# Altium schematic symbol library MCU.SchLib: 25 symbols (part 2 of 3)
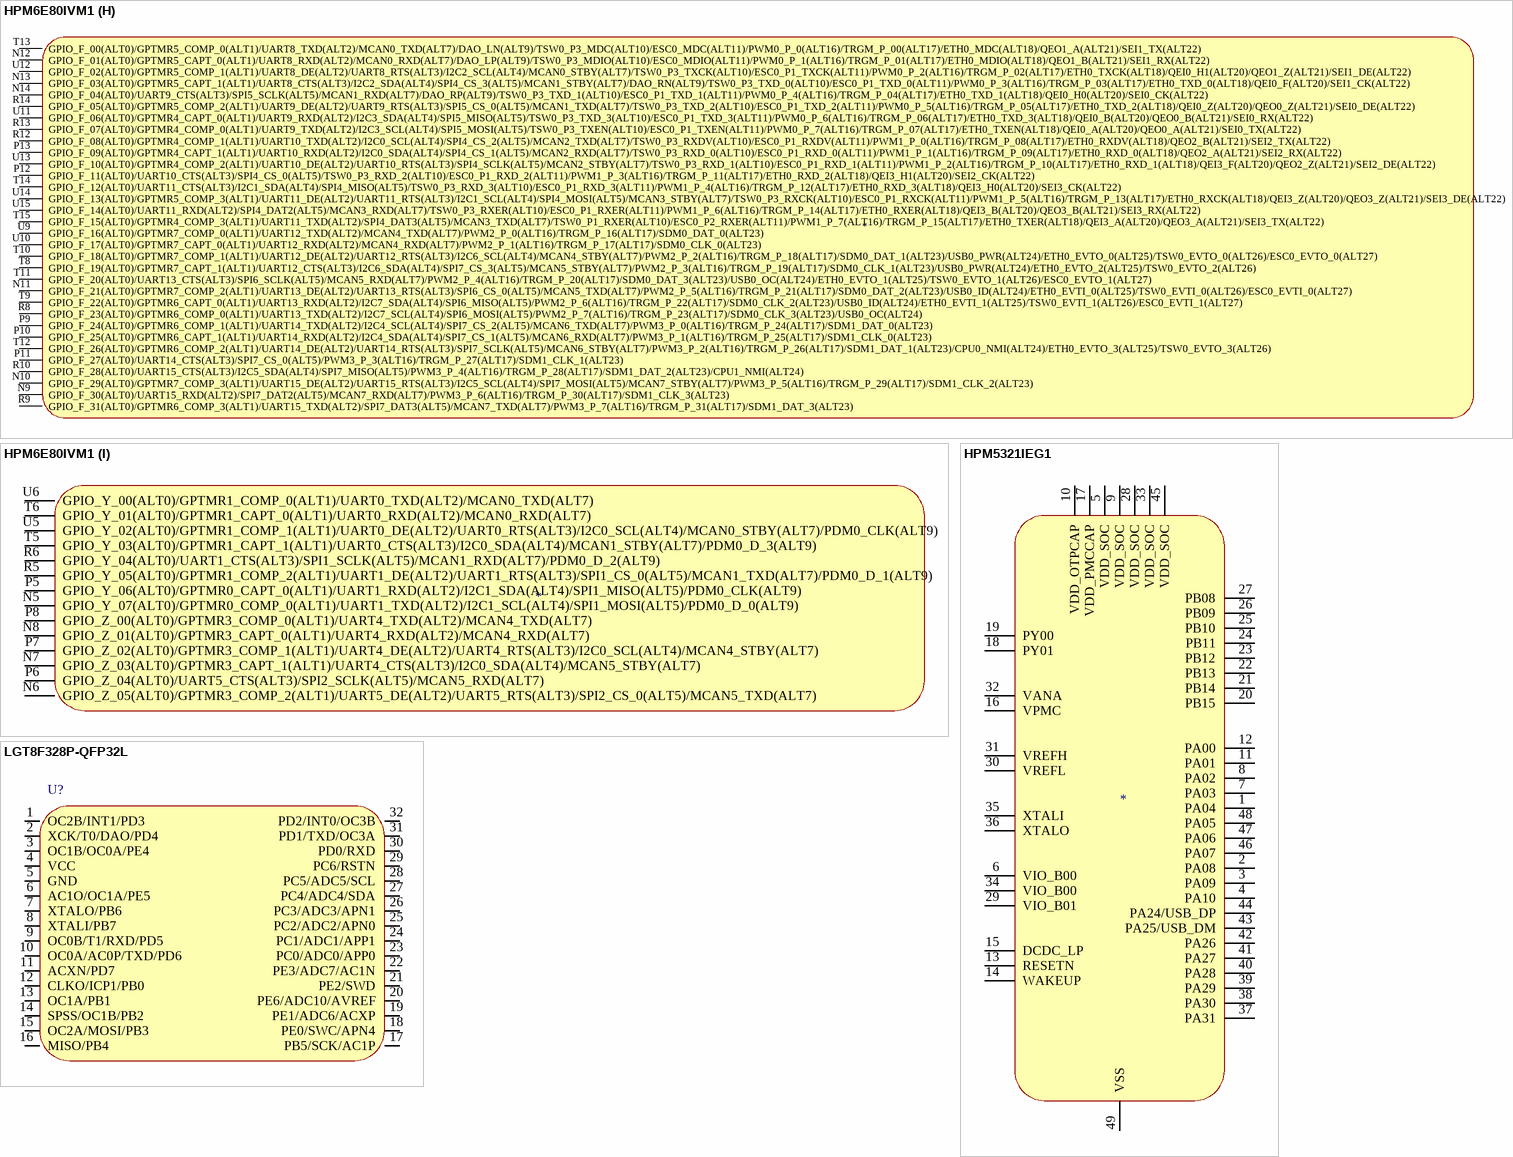
[diagram p8: symbols HPM6E80IVM1 to LGT8F328P-QFP32L]

## HPM6E80IVM1
designator U??
Symbol: HPM6E80IVM1_C49374603
footprint BGA-289_L14.0-W14.0-R17-C17-P0.80-TL
part A pins: A1 VSS, A17 VSS, C7 VSS, C11 VSS, D4 VSS, D14 VSS, F6 VDD_SOC, F12 VDD_SOC, G3 VSS, G7 VDD_SOC, G8 VSS, G9 VSS, G10 VSS, G11 VDD_SOC, G15 VSS, H7 VSS, H8 VDD_SOC, H9 VSS, H10 VDD_SOC, H11 VSS, J7 VSS, J8 VSS, J9 VDD_SOC, J10 VSS, J11 VSS, K7 VSS, K8 VDD_SOC, K9 VSS, K10 VDD_SOC, K11 VSS, L3 VSS, L6 VDD_PHY1CAP, L7 VDD_SOC, L8 VSS, L10 VSSA, L11 VDD_SOC, L15 VSS, M7 VDD_PHY0CAP, M8 VDD_OTPCAP, M9 VDD_PMCCAP, M12 VDD_USB, P4 VSS, P14 VSS, R2 DCDC_GND, R7 VSS, R11 VSS, T2 DCDC_GND, U1 VSS, U2 DCDC_GND, U17 VSS
part B pins: F7 VIO_B05, F8 VIO_B06, F9 VIO_B07, F10 VIO_B08, F11 VIO_B09, G6 VIO_B04, G12 VPLLVUSB, H6 VIO_B03, H12 USB0_VBUS, J6 VIO_B02, J12 VIO_B10, K6 VIO_B01, K12 VIO_B11, L9 VREFL, L12 VIO_B12, L16 XTALO, L17 XTALI, M6 DCDC_SNS, M10 VREFH, M11 VANA, M16 USB0_DP, M17 USB0_DN, R1 DCDC_IN, R3 DCDC_LP, R4 WKUP, T1 DCDC_IN, T3 DCDC_LP, T4 RSTN, T7 RTC_XO, U3 DCDC_LP, U4 VPMC, U7 RTC_XI, U8 VBAT
part C pins: G5 GPIO_A_07(ALT0)/GPTMR0_COMP_0(ALT1)/UART1_TXD(ALT2)/I2C3_SCL(ALT4)/SPI1_MOSI(ALT5)/PDM0_D_3(ALT9)/PWM0_P_7(ALT16)/TRGM_P_07(ALT17)/JTAG_TMS(ALT24), H1 GPIO_A_14(ALT0)/UART3_RXD(ALT2)/SPI0_DAT2(ALT5)/MCAN3_RXD(ALT7)/PDM0_D_2(ALT9)/ESC0_CTR_2(ALT11)/PWM1_P_6(ALT16)/TRGM_P_14(ALT17)/QEI3_B(ALT20)/QEO3_B(ALT21)/SEI3_RX(ALT22)/SDM1_CLK_3(ALT23)/ETH0_EVTO_3(ALT25)/TSW0_EVTO_3(ALT26), H2 GPIO_A_15(ALT0)/GPTMR0_COMP_3(ALT1)/UART3_TXD(ALT2)/SPI0_DAT3(ALT5)/MCAN3_TXD(ALT7)/PDM0_D_1(ALT9)/ESC0_CTR_3(ALT11)/PWM1_P_7(ALT16)/TRGM_P_15(ALT17)/QEI3_A(ALT20)/QEO3_A(ALT21)/SEI3_TX(ALT22)/SDM1_DAT_3(ALT23), H3 GPIO_A_04(ALT0)/UART1_CTS(ALT3)/SPI1_SCLK(ALT5)/MCAN1_RXD(ALT7)/PWM0_P_4(ALT16)/TRGM_P_04(ALT17)/JTAG_TDO(ALT24), H4 GPIO_A_05(ALT0)/GPTMR1_COMP_2(ALT1)/UART1_DE(ALT2)/UART1_RTS(ALT3)/SPI1_CS_0(ALT5)/MCAN1_TXD(ALT7)/PWM0_P_5(ALT16)/TRGM_P_05(ALT17)/JTAG_TDI(ALT24), H5 GPIO_A_06(ALT0)/GPTMR0_CAPT_0(ALT1)/UART1_RXD(ALT2)/I2C3_SDA(ALT4)/SPI1_MISO(ALT5)/PWM0_P_6(ALT16)/TRGM_P_06(ALT17)/JTAG_TCK(ALT24), J1 GPIO_A_11(ALT0)/UART2_CTS(ALT3)/SPI0_CS_0(ALT5)/PDM0_CLK(ALT9)/ESC0_CTR_0(ALT11)/PWM1_P_3(ALT16)/TRGM_P_11(ALT17)/QEI3_H1(ALT20)/RDC1_PWM_N(ALT21)/SEI2_CK(ALT22)/SDM1_CLK_1(ALT23)/CPU0_NMI(ALT24)/ETH0_EVTO_0(ALT25)/TSW0_EVTO_0(ALT26)/ESC0_EVTO_0(ALT27), J2 GPIO_A_12(ALT0)/UART3_CTS(ALT3)/I2C1_SDA(ALT4)/SPI0_MISO(ALT5)/PDM0_D_0(ALT9)/ESC0_SDA(ALT11)/PWM1_P_4(ALT16)/TRGM_P_12(ALT17)/QEI3_H0(ALT20)/RDC1_PWM_P(ALT21)/SEI3_CK(ALT22)/SDM1_DAT_2(ALT23)/CPU1_NMI(ALT24)/ETH0_EVTI_1(ALT25)/TSW0_EVTI_1(ALT26)/ESC0_EVTI_1(ALT27), J3 GPIO_A_13(ALT0)/GPTMR1_COMP_3(ALT1)/UART3_DE(ALT2)/UART3_RTS(ALT3)/I2C1_SCL(ALT4)/SPI0_MOSI(ALT5)/MCAN3_STBY(ALT7)/PDM0_CLK(ALT9)/ESC0_SCL(ALT11)/PWM1_P_5(ALT16)/TRGM_P_13(ALT17)/QEI3_Z(ALT20)/QEO3_Z(ALT21)/SEI3_DE(ALT22)/SDM1_CLK_2(ALT23)/CPU0_NMI(ALT24)/ETH0_EVTO_1(ALT25)/TSW0_EVTO_1(ALT26)/ESC0_EVTO_1(ALT27), J4 GPIO_A_02(ALT0)/GPTMR1_COMP_1(ALT1)/UART0_DE(ALT2)/UART0_RTS(ALT3)/I2C2_SCL(ALT4)/MCAN0_STBY(ALT7)/PWM0_P_2(ALT16)/TRGM_P_02(ALT17)/SYSCTL_CLK_OBS_1(ALT24), J5 GPIO_A_03(ALT0)/GPTMR1_CAPT_1(ALT1)/UART0_CTS(ALT3)/I2C2_SDA(ALT4)/SPI0_CS_3(ALT5)/MCAN1_STBY(ALT7)/PWM0_P_3(ALT16)/TRGM_P_03(ALT17)/SYSCTL_CLK_OBS_3(ALT24), K1 GPIO_A_08(ALT0)/GPTMR0_COMP_1(ALT1)/UART2_TXD(ALT2)/I2C0_SCL(ALT4)/SPI0_CS_2(ALT5)/MCAN2_TXD(ALT7)/PWM1_P_0(ALT16)/TRGM_P_08(ALT17)/RDC0_PWM_N(ALT20)/QEO2_B(ALT21)/SEI2_TX(ALT22)/SDM1_DAT_0(ALT23)/JTAG_TRST(ALT24), K2 GPIO_A_09(ALT0)/GPTMR0_CAPT_1(ALT1)/UART2_RXD(ALT2)/I2C0_SDA(ALT4)/SPI0_CS_1(ALT5)/MCAN2_RXD(ALT7)/ESC0_REFCK(ALT11)/PWM1_P_1(ALT16)/TRGM_P_09(ALT17)/RDC0_PWM_P(ALT20)/QEO2_A(ALT21)/SEI2_RX(ALT22)/SDM1_CLK_0(ALT23)/ETH0_EVTO_2(ALT25)/TSW0_EVTO_2(ALT26), K3 GPIO_A_10(ALT0)/GPTMR0_COMP_2(ALT1)/UART2_DE(ALT2)/UART2_RTS(ALT3)/SPI0_SCLK(ALT5)/MCAN2_STBY(ALT7)/ESC0_CTR_1(ALT11)/PWM1_P_2(ALT16)/TRGM_P_10(ALT17)/QEI3_F(ALT20)/QEO2_Z(ALT21)/SEI2_DE(ALT22)/SDM1_DAT_1(ALT23)/CPU1_NMI(ALT24)/ETH0_EVTI_0(ALT25)/TSW0_EVTI_0(ALT26)/ESC0_EVTI_0(ALT27), K4 GPIO_A_00(ALT0)/GPTMR1_COMP_0(ALT1)/UART0_TXD(ALT2)/MCAN0_TXD(ALT7)/PWM0_P_0(ALT16)/TRGM_P_00(ALT17)/SYSCTL_CLK_OBS_0(ALT24), K5 GPIO_A_01(ALT0)/GPTMR1_CAPT_0(ALT1)/UART0_RXD(ALT2)/MCAN0_RXD(ALT7)/PWM0_P_1(ALT16)/TRGM_P_01(ALT17)/SYSCTL_CLK_OBS_2(ALT24), L1 GPIO_A_22(ALT0)/GPTMR2_CAPT_0(ALT1)/UART5_RXD(ALT2)/I2C7_SDA(ALT4)/SPI2_MISO(ALT5)/TSW0_P2_RXER(ALT10)/ESC0_P1_RXER(ALT11)/PWM2_P_6(ALT16)/TRGM_P_22(ALT17)/ETH0_TXER(ALT18)/QEI2_B(ALT20)/QEO0_B(ALT21)/SEI0_RX(ALT22)/SDM0_DAT_0(ALT23), L2 GPIO_A_23(ALT0)/GPTMR2_COMP_0(ALT1)/UART5_TXD(ALT2)/I2C7_SCL(ALT4)/SPI2_MOSI(ALT5)/TSW0_P1_RXER(ALT10)/ESC0_P0_RXER(ALT11)/PWM2_P_7(ALT16)/TRGM_P_23(ALT17)/ETH0_RXER(ALT18)/QEI2_A(ALT20)/QEO0_A(ALT21)/SEI0_TX(ALT22)/SDM0_CLK_0(ALT23), L4 GPIO_A_30(ALT0)/UART7_RXD(ALT2)/SPI3_DAT2(ALT5)/MCAN7_RXD(ALT7)/TSW0_P1_MDC(ALT10)/ESC0_MDIO(ALT11)/PWM3_P_6(ALT16)/TRGM_P_30(ALT17)/ETH0_MDIO(ALT18)/QEI1_A(ALT20)/QEO3_B(ALT21)/SEI3_RX(ALT22), L5 GPIO_A_31(ALT0)/GPTMR2_COMP_3(ALT1)/UART7_TXD(ALT2)/SPI3_DAT3(ALT5)/MCAN7_TXD(ALT7)/TSW0_P1_MDIO(ALT10)/ESC0_MDC(ALT11)/PWM3_P_7(ALT16)/TRGM_P_31(ALT17)/ETH0_MDC(ALT18)/QEI1_B(ALT20)/QEO3_A(ALT21)/SEI3_TX(ALT22), M1 GPIO_A_20(ALT0)/UART5_CTS(ALT3)/SPI2_SCLK(ALT5)/MCAN5_RXD(ALT7)/TSW0_P1_RXD_3(ALT10)/ESC0_P0_RXD_3(ALT11)/PWM2_P_4(ALT16)/TRGM_P_20(ALT17)/QEI2_H0(ALT20)/SEI0_CK(ALT22)/SDM0_DAT_1(ALT23), M2 GPIO_A_21(ALT0)/GPTMR3_COMP_2(ALT1)/UART5_DE(ALT2)/UART5_RTS(ALT3)/SPI2_CS_0(ALT5)/MCAN5_TXD(ALT7)/TSW0_P1_RXCK(ALT10)/ESC0_P0_RXCK(ALT11)/PWM2_P_5(ALT16)/TRGM_P_21(ALT17)/QEI2_Z(ALT20)/QEO0_Z(ALT21)/SEI0_DE(ALT22)/SDM0_CLK_1(ALT23), M3 GPIO_A_27(ALT0)/UART6_CTS(ALT3)/SPI3_CS_0(ALT5)/TSW0_P1_TXD_2(ALT10)/ESC0_P0_TXD_2(ALT11)/PWM3_P_3(ALT16)/TRGM_P_27(ALT17)/QEI1_F(ALT20)/SEI2_CK(ALT22), M4 GPIO_A_28(ALT0)/UART7_CTS(ALT3)/I2C5_SDA(ALT4)/SPI3_MISO(ALT5)/TSW0_P1_TXD_3(ALT10)/ESC0_P0_TXD_3(ALT11)/PWM3_P_4(ALT16)/TRGM_P_28(ALT17)/ESC0_CTR_1(ALT18)/QEI1_H0(ALT20)/SEI3_CK(ALT22), M5 GPIO_A_29(ALT0)/GPTMR3_COMP_3(ALT1)/UART7_DE(ALT2)/UART7_RTS(ALT3)/I2C5_SCL(ALT4)/SPI3_MOSI(ALT5)/MCAN7_STBY(ALT7)/TSW0_P1_TXEN(ALT10)/ESC0_P0_TXEN(ALT11)/PWM3_P_5(ALT16)/TRGM_P_29(ALT17)/QEI1_Z(ALT20)/QEO3_Z(ALT21)/SEI3_DE(ALT22), N1 GPIO_A_18(ALT0)/GPTMR3_COMP_1(ALT1)/UART4_DE(ALT2)/UART4_RTS(ALT3)/I2C6_SCL(ALT4)/MCAN4_STBY(ALT7)/TSW0_P1_RXD_1(ALT10)/ESC0_P0_RXD_1(ALT11)/PWM2_P_2(ALT16)/TRGM_P_18(ALT17)/QEI2_H1(ALT20)/QEO1_Z(ALT21)/SEI1_DE(ALT22)/SDM0_DAT_2(ALT23), N2 GPIO_A_19(ALT0)/GPTMR3_CAPT_1(ALT1)/UART4_CTS(ALT3)/I2C6_SDA(ALT4)/SPI3_CS_3(ALT5)/MCAN5_STBY(ALT7)/TSW0_P1_RXD_2(ALT10)/ESC0_P0_RXD_2(ALT11)/PWM2_P_3(ALT16)/TRGM_P_19(ALT17)/QEI2_F(ALT20)/SEI1_CK(ALT22)/SDM0_CLK_2(ALT23), N3 GPIO_A_25(ALT0)/GPTMR2_CAPT_1(ALT1)/UART6_RXD(ALT2)/I2C4_SDA(ALT4)/SPI3_CS_1(ALT5)/MCAN6_RXD(ALT7)/TSW0_P1_TXD_0(ALT10)/ESC0_P0_TXD_0(ALT11)/PWM3_P_1(ALT16)/TRGM_P_25(ALT17)/ESC0_CTR_0(ALT18)/QEO2_B(ALT21)/SEI2_RX(ALT22), N4 GPIO_A_26(ALT0)/GPTMR2_COMP_2(ALT1)/UART6_DE(ALT2)/UART6_RTS(ALT3)/SPI3_SCLK(ALT5)/MCAN6_STBY(ALT7)/TSW0_P1_TXD_1(ALT10)/ESC0_P0_TXD_1(ALT11)/PWM3_P_2(ALT16)/TRGM_P_26(ALT17)/QEI1_H1(ALT20)/QEO2_Z(ALT21)/SEI2_DE(ALT22), P1 GPIO_A_16(ALT0)/GPTMR3_COMP_0(ALT1)/UART4_TXD(ALT2)/MCAN4_TXD(ALT7)/TSW0_P1_RXDV(ALT10)/ESC0_P0_RXDV(ALT11)/PWM2_P_0(ALT16)/TRGM_P_16(ALT17)/QEO1_A(ALT21)/SEI1_TX(ALT22)/SDM0_DAT_3(ALT23), P2 GPIO_A_17(ALT0)/GPTMR3_CAPT_0(ALT1)/UART4_RXD(ALT2)/MCAN4_RXD(ALT7)/TSW0_P1_RXD_0(ALT10)/ESC0_P0_RXD_0(ALT11)/PWM2_P_1(ALT16)/TRGM_P_17(ALT17)/QEO1_B(ALT21)/SEI1_RX(ALT22)/SDM0_CLK_3(ALT23), P3 GPIO_A_24(ALT0)/GPTMR2_COMP_1(ALT1)/UART6_TXD(ALT2)/I2C4_SCL(ALT4)/SPI3_CS_2(ALT5)/MCAN6_TXD(ALT7)/TSW0_P1_TXCK(ALT10)/ESC0_P0_TXCK(ALT11)/PWM3_P_0(ALT16)/TRGM_P_24(ALT17)/QEO2_A(ALT21)/SEI2_TX(ALT22)
part D pins: A2 GPIO_B_24(ALT0)/GPTMR6_COMP_1(ALT1)/UART14_TXD(ALT2)/I2C4_SCL(ALT4)/SPI7_CS_2(ALT5)/MCAN6_TXD(ALT7)/ESC0_CTR_4(ALT11)/XPI0_CA_CS1(ALT14)/PWM3_P_0(ALT16)/TRGM_P_24(ALT17)/RDC0_PWM_N(ALT21)/SDM0_CLK_3(ALT23)/ETH0_EVTI_0(ALT25)/TSW0_EVTI_0(ALT26)/ESC0_EVTI_0(ALT27), A3 GPIO_B_26(ALT0)/GPTMR6_COMP_2(ALT1)/UART14_DE(ALT2)/UART14_RTS(ALT3)/SPI7_SCLK(ALT5)/MCAN6_STBY(ALT7)/ESC0_CTR_6(ALT11)/XPI0_CA_D_2(ALT14)/PWM3_P_2(ALT16)/TRGM_P_26(ALT17)/QEI1_H1(ALT20)/RDC1_PWM_N(ALT21)/SDM0_CLK_2(ALT23)/ETH0_EVTI_1(ALT25)/TSW0_EVTI_1(ALT26)/ESC0_EVTI_1(ALT27), A4 GPIO_B_28(ALT0)/UART15_CTS(ALT3)/I2C5_SDA(ALT4)/SPI7_MISO(ALT5)/ESC0_CTR_8(ALT11)/XPI0_CA_D_1(ALT14)/PWM3_P_4(ALT16)/TRGM_P_28(ALT17)/QEI1_H0(ALT20)/RDC0_PWM_N(ALT21)/SDM0_CLK_1(ALT23), A5 GPIO_B_30(ALT0)/UART15_RXD(ALT2)/SPI7_DAT2(ALT5)/MCAN7_RXD(ALT7)/ESC0_CTR_7(ALT11)/XPI0_CA_CS0(ALT14)/PWM3_P_6(ALT16)/TRGM_P_30(ALT17)/QEI1_A(ALT20)/RDC1_PWM_N(ALT21)/SDM0_CLK_0(ALT23), B1 GPIO_B_10(ALT0)/GPTMR4_COMP_2(ALT1)/UART10_DE(ALT2)/UART10_RTS(ALT3)/SPI4_SCLK(ALT5)/MCAN2_STBY(ALT7)/I2S0_FCLK(ALT8)/TSW0_P1_TXD_3(ALT10)/ESC0_P0_TXD_3(ALT11)/PWM1_P_2(ALT16)/TRGM_P_10(ALT17)/ETH0_TXD_3(ALT18)/QEI3_F(ALT20)/QEO2_Z(ALT21)/SEI2_DE(ALT22), B2 GPIO_B_25(ALT0)/GPTMR6_CAPT_1(ALT1)/UART14_RXD(ALT2)/I2C4_SDA(ALT4)/SPI7_CS_1(ALT5)/MCAN6_RXD(ALT7)/ESC0_CTR_5(ALT11)/XPI0_CA_DQS(ALT14)/PWM3_P_1(ALT16)/TRGM_P_25(ALT17)/RDC0_PWM_P(ALT21)/SDM0_DAT_3(ALT23)/ETH0_EVTO_0(ALT25)/TSW0_EVTO_0(ALT26)/ESC0_EVTO_0(ALT27), B3 GPIO_B_27(ALT0)/UART14_CTS(ALT3)/SPI7_CS_0(ALT5)/ESC0_CTR_7(ALT11)/XPI0_CA_D_0(ALT14)/PWM3_P_3(ALT16)/TRGM_P_27(ALT17)/QEI1_F(ALT20)/RDC1_PWM_P(ALT21)/SDM0_DAT_2(ALT23)/ETH0_EVTO_2(ALT25)/TSW0_EVTO_2(ALT26), B4 GPIO_B_29(ALT0)/GPTMR7_COMP_3(ALT1)/UART15_DE(ALT2)/UART15_RTS(ALT3)/I2C5_SCL(ALT4)/SPI7_MOSI(ALT5)/MCAN7_STBY(ALT7)/XPI0_CA_SCLK(ALT14)/PWM3_P_5(ALT16)/TRGM_P_29(ALT17)/QEI1_Z(ALT20)/RDC0_PWM_P(ALT21)/SDM0_DAT_1(ALT23)/ETH0_EVTO_1(ALT25)/TSW0_EVTO_1(ALT26)/ESC0_EVTO_1(ALT27), B5 GPIO_B_31(ALT0)/GPTMR6_COMP_3(ALT1)/UART15_TXD(ALT2)/SPI7_DAT3(ALT5)/MCAN7_TXD(ALT7)/ESC0_CTR_8(ALT11)/XPI0_CA_D_3(ALT14)/PWM3_P_7(ALT16)/TRGM_P_31(ALT17)/QEI1_B(ALT20)/RDC1_PWM_P(ALT21)/SDM0_DAT_0(ALT23)/ETH0_EVTO_3(ALT25)/TSW0_EVTO_3(ALT26), C1 GPIO_B_08(ALT0)/GPTMR4_COMP_1(ALT1)/UART10_TXD(ALT2)/I2C0_SCL(ALT4)/SPI4_CS_2(ALT5)/MCAN2_TXD(ALT7)/I2S0_RXD_0(ALT8)/TSW0_P1_TXD_1(ALT10)/ESC0_P0_TXD_1(ALT11)/PWM1_P_0(ALT16)/TRGM_P_08(ALT17)/ETH0_TXD_1(ALT18)/QEO2_B(ALT21)/SEI2_TX(ALT22)/SDM1_DAT_0(ALT23), C2 GPIO_B_09(ALT0)/GPTMR4_CAPT_1(ALT1)/UART10_RXD(ALT2)/I2C0_SDA(ALT4)/SPI4_CS_1(ALT5)/MCAN2_RXD(ALT7)/I2S0_RXD_2(ALT8)/TSW0_P1_TXD_2(ALT10)/ESC0_P0_TXD_2(ALT11)/PWM1_P_1(ALT16)/TRGM_P_09(ALT17)/ETH0_TXD_2(ALT18)/QEO2_A(ALT21)/SEI2_RX(ALT22)/SDM1_CLK_0(ALT23), C3 GPIO_B_11(ALT0)/UART10_CTS(ALT3)/SPI4_CS_0(ALT5)/I2S0_MCLK(ALT8)/TSW0_P1_TXEN(ALT10)/ESC0_P0_TXEN(ALT11)/PWM1_P_3(ALT16)/TRGM_P_11(ALT17)/ETH0_TXEN(ALT18)/QEI3_H1(ALT20)/SEI2_CK(ALT22), C4 GPIO_B_22(ALT0)/GPTMR6_CAPT_0(ALT1)/UART13_RXD(ALT2)/I2C7_SDA(ALT4)/SPI6_MISO(ALT5)/DAO_RN(ALT9)/TSW0_P2_TXD_3(ALT10)/ESC0_P1_TXD_3(ALT11)/PWM2_P_6(ALT16)/TRGM_P_22(ALT17)/QEI2_B(ALT20)/QEO0_B(ALT21)/SEI0_RX(ALT22), C5 GPIO_B_23(ALT0)/GPTMR6_COMP_0(ALT1)/UART13_TXD(ALT2)/I2C7_SCL(ALT4)/SPI6_MOSI(ALT5)/DAO_LP(ALT9)/TSW0_P2_TXEN(ALT10)/ESC0_P1_TXEN(ALT11)/PWM2_P_7(ALT16)/TRGM_P_23(ALT17)/QEI2_A(ALT20)/QEO0_A(ALT21)/SEI0_TX(ALT22), D1 GPIO_B_06(ALT0)/GPTMR4_CAPT_0(ALT1)/UART9_RXD(ALT2)/I2C3_SDA(ALT4)/SPI5_MISO(ALT5)/I2S0_RXD_1(ALT8)/TSW0_P1_TXCK(ALT10)/ESC0_P0_TXCK(ALT11)/PWM0_P_6(ALT16)/TRGM_P_06(ALT17)/ETH0_TXCK(ALT18)/QEI0_B(ALT20)/QEO0_B(ALT21)/SEI0_RX(ALT22)/SDM1_DAT_1(ALT23), D2 GPIO_B_07(ALT0)/GPTMR4_COMP_0(ALT1)/UART9_TXD(ALT2)/I2C3_SCL(ALT4)/SPI5_MOSI(ALT5)/I2S0_RXD_3(ALT8)/TSW0_P1_TXD_0(ALT10)/ESC0_P0_TXD_0(ALT11)/PWM0_P_7(ALT16)/TRGM_P_07(ALT17)/ETH0_TXD_0(ALT18)/QEI0_A(ALT20)/QEO0_A(ALT21)/SEI0_TX(ALT22)/SDM1_CLK_1(ALT23), D3 GPIO_B_17(ALT0)/GPTMR7_CAPT_0(ALT1)/UART12_RXD(ALT2)/MCAN4_RXD(ALT7)/TSW0_P2_RXCK(ALT10)/ESC0_P1_RXCK(ALT11)/PWM2_P_1(ALT16)/TRGM_P_17(ALT17)/RDC0_PWM_P(ALT20)/QEO1_B(ALT21)/SEI1_RX(ALT22)/SDM0_DAT_1(ALT23), D5 GPIO_B_21(ALT0)/GPTMR7_COMP_2(ALT1)/UART13_DE(ALT2)/UART13_RTS(ALT3)/SPI6_CS_0(ALT5)/MCAN5_TXD(ALT7)/DAO_LN(ALT9)/TSW0_P2_TXD_2(ALT10)/ESC0_P1_TXD_2(ALT11)/PWM2_P_5(ALT16)/TRGM_P_21(ALT17)/QEI2_Z(ALT20)/QEO0_Z(ALT21)/SEI0_DE(ALT22), E1 GPIO_B_04(ALT0)/UART9_CTS(ALT3)/SPI5_SCLK(ALT5)/MCAN1_RXD(ALT7)/I2S0_MCLK(ALT8)/PDM0_D_1(ALT9)/TSW0_P1_RXD_3(ALT10)/ESC0_P0_RXD_3(ALT11)/PWM0_P_4(ALT16)/TRGM_P_04(ALT17)/ETH0_RXD_3(ALT18)/QEI0_H0(ALT20)/SEI0_CK(ALT22)/SDM1_DAT_2(ALT23), E2 GPIO_B_05(ALT0)/GPTMR5_COMP_2(ALT1)/UART9_DE(ALT2)/UART9_RTS(ALT3)/SPI5_CS_0(ALT5)/MCAN1_TXD(ALT7)/I2S0_TXD_2(ALT8)/PDM0_D_3(ALT9)/TSW0_P1_RXCK(ALT10)/ESC0_P0_RXCK(ALT11)/PWM0_P_5(ALT16)/TRGM_P_05(ALT17)/ETH0_RXCK(ALT18)/QEI0_Z(ALT20)/QEO0_Z(ALT21)/SEI0_DE(ALT22)/SDM1_CLK_2(ALT23), E3 GPIO_B_15(ALT0)/GPTMR4_COMP_3(ALT1)/UART11_TXD(ALT2)/SPI4_DAT3(ALT5)/MCAN3_TXD(ALT7)/TSW0_P2_RXD_2(ALT10)/ESC0_P1_RXD_2(ALT11)/PWM1_P_7(ALT16)/TRGM_P_15(ALT17)/QEI3_A(ALT20)/QEO3_A(ALT21)/SEI3_TX(ALT22)/SDM0_CLK_2(ALT23), E4 GPIO_B_16(ALT0)/GPTMR7_COMP_0(ALT1)/UART12_TXD(ALT2)/MCAN4_TXD(ALT7)/TSW0_P2_RXD_3(ALT10)/ESC0_P1_RXD_3(ALT11)/PWM2_P_0(ALT16)/TRGM_P_16(ALT17)/RDC0_PWM_N(ALT20)/QEO1_A(ALT21)/SEI1_TX(ALT22), E5 GPIO_B_19(ALT0)/GPTMR7_CAPT_1(ALT1)/UART12_CTS(ALT3)/I2C6_SDA(ALT4)/SPI7_CS_3(ALT5)/MCAN5_STBY(ALT7)/TSW0_P2_TXD_0(ALT10)/ESC0_P1_TXD_0(ALT11)/PWM2_P_3(ALT16)/TRGM_P_19(ALT17)/QEI2_F(ALT20)/RDC1_PWM_N(ALT21)/SEI1_CK(ALT22)/SDM0_DAT_0(ALT23), E6 GPIO_B_20(ALT0)/UART13_CTS(ALT3)/SPI6_SCLK(ALT5)/MCAN5_RXD(ALT7)/DAO_RP(ALT9)/TSW0_P2_TXD_1(ALT10)/ESC0_P1_TXD_1(ALT11)/PWM2_P_4(ALT16)/TRGM_P_20(ALT17)/QEI2_H0(ALT20)/RDC1_PWM_P(ALT21)/SEI0_CK(ALT22)/SDM0_CLK_0(ALT23), F1 GPIO_B_02(ALT0)/GPTMR5_COMP_1(ALT1)/UART8_DE(ALT2)/UART8_RTS(ALT3)/I2C2_SCL(ALT4)/MCAN0_STBY(ALT7)/I2S0_TXD_3(ALT8)/PDM0_CLK(ALT9)/TSW0_P1_RXD_1(ALT10)/ESC0_P0_RXD_1(ALT11)/PWM0_P_2(ALT16)/TRGM_P_02(ALT17)/ETH0_RXD_1(ALT18)/QEI0_H1(ALT20)/QEO1_Z(ALT21)/SEI1_DE(ALT22)/SDM1_CLK_3(ALT23), F2 GPIO_B_03(ALT0)/GPTMR5_CAPT_1(ALT1)/UART8_CTS(ALT3)/I2C2_SDA(ALT4)/SPI4_CS_3(ALT5)/MCAN1_STBY(ALT7)/I2S0_TXD_1(ALT8)/PDM0_D_0(ALT9)/TSW0_P1_RXD_2(ALT10)/ESC0_P0_RXD_2(ALT11)/PWM0_P_3(ALT16)/TRGM_P_03(ALT17)/ETH0_RXD_2(ALT18)/QEI0_F(ALT20)/SEI1_CK(ALT22), F3 GPIO_B_13(ALT0)/GPTMR5_COMP_3(ALT1)/UART11_DE(ALT2)/UART11_RTS(ALT3)/I2C1_SCL(ALT4)/SPI4_MOSI(ALT5)/MCAN3_STBY(ALT7)/TSW0_P2_RXD_0(ALT10)/ESC0_P1_RXD_0(ALT11)/PWM1_P_5(ALT16)/TRGM_P_13(ALT17)/QEI3_Z(ALT20)/QEO3_Z(ALT21)/SEI3_DE(ALT22)/SDM0_CLK_3(ALT23), F4 GPIO_B_14(ALT0)/UART11_RXD(ALT2)/SPI4_DAT2(ALT5)/MCAN3_RXD(ALT7)/TSW0_P2_RXD_1(ALT10)/ESC0_P1_RXD_1(ALT11)/PWM1_P_6(ALT16)/TRGM_P_14(ALT17)/QEI3_B(ALT20)/QEO3_B(ALT21)/SEI3_RX(ALT22)/SDM0_DAT_2(ALT23), F5 GPIO_B_18(ALT0)/GPTMR7_COMP_1(ALT1)/UART12_DE(ALT2)/UART12_RTS(ALT3)/I2C6_SCL(ALT4)/MCAN4_STBY(ALT7)/TSW0_P2_TXCK(ALT10)/ESC0_P1_TXCK(ALT11)/PWM2_P_2(ALT16)/TRGM_P_18(ALT17)/QEI2_H1(ALT20)/QEO1_Z(ALT21)/SEI1_DE(ALT22)/SDM0_CLK_1(ALT23), G1 GPIO_B_00(ALT0)/GPTMR5_COMP_0(ALT1)/UART8_TXD(ALT2)/MCAN0_TXD(ALT7)/I2S0_TXD_0(ALT8)/PDM0_CLK(ALT9)/TSW0_P1_RXDV(ALT10)/ESC0_P0_RXDV(ALT11)/PWM0_P_0(ALT16)/TRGM_P_00(ALT17)/ETH0_RXDV(ALT18)/QEO1_A(ALT21)/SEI1_TX(ALT22), G2 GPIO_B_01(ALT0)/GPTMR5_CAPT_0(ALT1)/UART8_RXD(ALT2)/MCAN0_RXD(ALT7)/I2S0_BCLK(ALT8)/PDM0_D_2(ALT9)/TSW0_P1_RXD_0(ALT10)/ESC0_P0_RXD_0(ALT11)/PWM0_P_1(ALT16)/TRGM_P_01(ALT17)/ETH0_RXD_0(ALT18)/QEO1_B(ALT21)/SEI1_RX(ALT22)/SDM1_DAT_3(ALT23), G4 GPIO_B_12(ALT0)/UART11_CTS(ALT3)/I2C1_SDA(ALT4)/SPI4_MISO(ALT5)/TSW0_P2_RXDV(ALT10)/ESC0_P1_RXDV(ALT11)/PWM1_P_4(ALT16)/TRGM_P_12(ALT17)/QEI3_H0(ALT20)/SEI3_CK(ALT22)/SDM0_DAT_3(ALT23)
part E pins: A6 GPIO_C_00(ALT0)/GPTMR1_COMP_0(ALT1)/UART0_TXD(ALT2)/MCAN0_TXD(ALT7)/ESC0_GPI_63(ALT10)/ESC0_GPO_00(ALT11)/FEMC_DQ_24(ALT12)/PPI0_DQ_24(ALT13)/XPI0_CB_CS0(ALT14)/PWM0_P_0(ALT16)/TRGM_P_00(ALT17)/ESC0_GPI_15(ALT18), A7 GPIO_C_03(ALT0)/GPTMR1_CAPT_1(ALT1)/UART0_CTS(ALT3)/I2C2_SDA(ALT4)/SPI1_CS_3(ALT5)/MCAN1_STBY(ALT7)/ESC0_GPI_60(ALT10)/ESC0_GPO_03(ALT11)/FEMC_DQ_26(ALT12)/PPI0_DQ_26(ALT13)/XPI0_CB_D_3(ALT14)/PWM0_P_3(ALT16)/TRGM_P_03(ALT17)/ESC0_GPI_12(ALT18)/QEI0_F(ALT20), A8 GPIO_C_05(ALT0)/GPTMR1_COMP_2(ALT1)/UART1_DE(ALT2)/UART1_RTS(ALT3)/SPI0_CS_0(ALT5)/MCAN1_TXD(ALT7)/ESC0_GPI_58(ALT10)/ESC0_GPO_05(ALT11)/FEMC_DQ_28(ALT12)/PPI0_DQ_28(ALT13)/XPI0_CA_CS0(ALT14)/PWM0_P_5(ALT16)/TRGM_P_05(ALT17)/ESC0_GPI_10(ALT18)/QEI0_Z(ALT20)/QEO0_Z(ALT21)/SEI0_DE(ALT22), A9 GPIO_C_07(ALT0)/GPTMR0_COMP_0(ALT1)/UART1_TXD(ALT2)/I2C3_SCL(ALT4)/SPI0_MOSI(ALT5)/ESC0_GPI_56(ALT10)/ESC0_GPO_07(ALT11)/FEMC_DQ_30(ALT12)/PPI0_DQ_30(ALT13)/XPI0_CA_D_3(ALT14)/PWM0_P_7(ALT16)/TRGM_P_07(ALT17)/ESC0_GPI_08(ALT18)/QEI0_A(ALT20)/QEO0_A(ALT21)/SEI0_TX(ALT22), A10 GPIO_C_18(ALT0)/GPTMR3_COMP_1(ALT1)/UART4_DE(ALT2)/UART4_RTS(ALT3)/I2C6_SCL(ALT4)/MCAN4_STBY(ALT7)/ESC0_GPI_45(ALT10)/ESC0_GPO_18(ALT11)/FEMC_A_04(ALT12)/PPI0_DQ_04(ALT13)/PWM2_P_2(ALT16)/TRGM_P_18(ALT17)/ESC0_CTR_0(ALT18)/QEI2_H1(ALT20)/XPI_SLV_RDY(ALT30), A11 GPIO_C_20(ALT0)/UART5_CTS(ALT3)/SPI3_SCLK(ALT5)/MCAN5_RXD(ALT7)/ESC0_GPI_43(ALT10)/ESC0_GPO_20(ALT11)/FEMC_A_06(ALT12)/PPI0_DQ_06(ALT13)/PWM2_P_4(ALT16)/TRGM_P_20(ALT17)/ESC0_CTR_2(ALT18)/QEI2_H0(ALT20)/SEI1_CK(ALT22)/XPI_SLV_ADQ_0(ALT30), A12 GPIO_C_22(ALT0)/GPTMR2_CAPT_0(ALT1)/UART5_RXD(ALT2)/I2C7_SDA(ALT4)/SPI3_MISO(ALT5)/ESC0_GPI_41(ALT10)/ESC0_GPO_22(ALT11)/FEMC_SRDY(ALT12)/PPI0_CTR_2(ALT13)/PWM2_P_6(ALT16)/TRGM_P_22(ALT17)/QEI2_B(ALT20)/QEO1_B(ALT21)/SEI1_RX(ALT22)/XPI_SLV_DQS(ALT30), A13 GPIO_C_24(ALT0)/GPTMR2_COMP_1(ALT1)/UART6_TXD(ALT2)/I2C4_SCL(ALT4)/SPI2_CS_2(ALT5)/MCAN6_TXD(ALT7)/ESC0_GPI_39(ALT10)/ESC0_GPO_24(ALT11)/FEMC_A_09(ALT12)/PPI0_DQ_09(ALT13)/PWM3_P_0(ALT16)/TRGM_P_24(ALT17), A14 GPIO_C_26(ALT0)/GPTMR2_COMP_2(ALT1)/UART6_DE(ALT2)/UART6_RTS(ALT3)/SPI2_SCLK(ALT5)/MCAN6_STBY(ALT7)/ESC0_GPI_37(ALT10)/ESC0_GPO_26(ALT11)/FEMC_A_12(ALT12)/PPI0_DQ_12(ALT13)/PWM3_P_2(ALT16)/TRGM_P_26(ALT17)/QEI1_H1(ALT20), A15 GPIO_C_28(ALT0)/UART7_CTS(ALT3)/I2C5_SDA(ALT4)/SPI2_MISO(ALT5)/ESC0_GPI_35(ALT10)/ESC0_GPO_28(ALT11)/FEMC_CKE(ALT12)/PPI0_DM_0(ALT13)/PWM3_P_4(ALT16)/TRGM_P_28(ALT17)/ESC0_CTR_5(ALT18)/QEI1_H0(ALT20)/SEI3_CK(ALT22), A16 GPIO_C_30(ALT0)/UART7_RXD(ALT2)/SPI2_DAT2(ALT5)/MCAN7_RXD(ALT7)/ESC0_GPI_33(ALT10)/ESC0_GPO_30(ALT11)/FEMC_SCS_0(ALT12)/PPI0_CS_0(ALT13)/PWM3_P_6(ALT16)/TRGM_P_30(ALT17)/ESC0_CTR_7(ALT18)/QEI1_A(ALT20)/QEO3_B(ALT21)/SEI3_RX(ALT22)/SOC_REF1(ALT24), B6 GPIO_C_01(ALT0)/GPTMR1_CAPT_0(ALT1)/UART0_RXD(ALT2)/MCAN0_RXD(ALT7)/ESC0_GPI_62(ALT10)/ESC0_GPO_01(ALT11)/FEMC_DQ_25(ALT12)/PPI0_DQ_25(ALT13)/XPI0_CB_D_1(ALT14)/PWM0_P_1(ALT16)/TRGM_P_01(ALT17)/ESC0_GPI_14(ALT18), B7 GPIO_C_04(ALT0)/UART1_CTS(ALT3)/SPI0_SCLK(ALT5)/MCAN1_RXD(ALT7)/ESC0_GPI_59(ALT10)/ESC0_GPO_04(ALT11)/FEMC_DQ_27(ALT12)/PPI0_DQ_27(ALT13)/XPI0_CB_SCLK(ALT14)/PWM0_P_4(ALT16)/TRGM_P_04(ALT17)/ESC0_GPI_11(ALT18)/QEI0_H0(ALT20)/SEI0_CK(ALT22), B8 GPIO_C_06(ALT0)/GPTMR0_CAPT_0(ALT1)/UART1_RXD(ALT2)/I2C3_SDA(ALT4)/SPI0_MISO(ALT5)/ESC0_GPI_57(ALT10)/ESC0_GPO_06(ALT11)/FEMC_DQ_29(ALT12)/PPI0_DQ_29(ALT13)/XPI0_CA_D_1(ALT14)/PWM0_P_6(ALT16)/TRGM_P_06(ALT17)/ESC0_GPI_09(ALT18)/QEI0_B(ALT20)/QEO0_B(ALT21)/SEI0_RX(ALT22), B9 GPIO_C_08(ALT0)/GPTMR0_COMP_1(ALT1)/UART2_TXD(ALT2)/I2C0_SCL(ALT4)/SPI1_CS_2(ALT5)/MCAN2_TXD(ALT7)/ESC0_GPI_55(ALT10)/ESC0_GPO_08(ALT11)/FEMC_DQ_31(ALT12)/PPI0_DQ_31(ALT13)/XPI0_CA_SCLK(ALT14)/PWM1_P_0(ALT16)/TRGM_P_08(ALT17)/ESC0_GPI_07(ALT18), B10 GPIO_C_19(ALT0)/GPTMR3_CAPT_1(ALT1)/UART4_CTS(ALT3)/I2C6_SDA(ALT4)/SPI2_CS_3(ALT5)/MCAN5_STBY(ALT7)/ESC0_GPI_44(ALT10)/ESC0_GPO_19(ALT11)/FEMC_A_05(ALT12)/PPI0_DQ_05(ALT13)/PWM2_P_3(ALT16)/TRGM_P_19(ALT17)/ESC0_CTR_1(ALT18)/QEI2_F(ALT20)/XPI_SLV_ADQ_1(ALT30), B11 GPIO_C_21(ALT0)/GPTMR3_COMP_2(ALT1)/UART5_DE(ALT2)/UART5_RTS(ALT3)/SPI3_CS_0(ALT5)/MCAN5_TXD(ALT7)/ESC0_GPI_42(ALT10)/ESC0_GPO_21(ALT11)/FEMC_A_07(ALT12)/PPI0_DQ_07(ALT13)/PWM2_P_5(ALT16)/TRGM_P_21(ALT17)/ESC0_CTR_3(ALT18)/QEI2_Z(ALT20)/QEO1_Z(ALT21)/SEI1_DE(ALT22)/XPI_SLV_ADQ_3(ALT30), B12 GPIO_C_23(ALT0)/GPTMR2_COMP_0(ALT1)/UART5_TXD(ALT2)/I2C7_SCL(ALT4)/SPI3_MOSI(ALT5)/ESC0_GPI_40(ALT10)/ESC0_GPO_23(ALT11)/FEMC_A_08(ALT12)/PPI0_DQ_08(ALT13)/PWM2_P_7(ALT16)/TRGM_P_23(ALT17)/QEI2_A(ALT20)/QEO1_A(ALT21)/SEI1_TX(ALT22), B13 GPIO_C_25(ALT0)/GPTMR2_CAPT_1(ALT1)/UART6_RXD(ALT2)/I2C4_SDA(ALT4)/SPI2_CS_1(ALT5)/MCAN6_RXD(ALT7)/ESC0_GPI_38(ALT10)/ESC0_GPO_25(ALT11)/FEMC_A_11(ALT12)/PPI0_DQ_11(ALT13)/PWM3_P_1(ALT16)/TRGM_P_25(ALT17), B14 GPIO_C_27(ALT0)/UART6_CTS(ALT3)/SPI2_CS_0(ALT5)/ESC0_GPI_36(ALT10)/ESC0_GPO_27(ALT11)/FEMC_CLK_0(ALT12)/PPI0_CTR_0(ALT13)/PWM3_P_3(ALT16)/TRGM_P_27(ALT17)/ESC0_CTR_4(ALT18)/QEI1_F(ALT20), B15 GPIO_C_29(ALT0)/GPTMR3_COMP_3(ALT1)/UART7_DE(ALT2)/UART7_RTS(ALT3)/I2C5_SCL(ALT4)/SPI2_MOSI(ALT5)/MCAN7_STBY(ALT7)/ESC0_GPI_34(ALT10)/ESC0_GPO_29(ALT11)/FEMC_SCLK_0(ALT12)/PPI0_CLK(ALT13)/PWM3_P_5(ALT16)/TRGM_P_29(ALT17)/ESC0_CTR_6(ALT18)/QEI1_Z(ALT20)/QEO3_Z(ALT21)/SEI3_DE(ALT22)/SOC_REF0(ALT24), B16 GPIO_C_31(ALT0)/GPTMR2_COMP_3(ALT1)/UART7_TXD(ALT2)/SPI2_DAT3(ALT5)/MCAN7_TXD(ALT7)/ESC0_GPI_32(ALT10)/ESC0_GPO_31(ALT11)/FEMC_SCS_1(ALT12)/PPI0_CS_1(ALT13)/PWM3_P_7(ALT16)/TRGM_P_31(ALT17)/ESC0_CTR_8(ALT18)/QEI1_B(ALT20)/QEO3_A(ALT21)/SEI3_TX(ALT22), C6 GPIO_C_02(ALT0)/GPTMR1_COMP_1(ALT1)/UART0_DE(ALT2)/UART0_RTS(ALT3)/I2C2_SCL(ALT4)/MCAN0_STBY(ALT7)/ESC0_GPI_61(ALT10)/ESC0_GPO_02(ALT11)/FEMC_DQ_22(ALT12)/PPI0_DQ_22(ALT13)/XPI0_CB_D_2(ALT14)/PWM0_P_2(ALT16)/TRGM_P_02(ALT17)/ESC0_GPI_13(ALT18)/QEI0_H1(ALT20)/SDM1_CLK_0(ALT23), C8 GPIO_C_12(ALT0)/UART3_CTS(ALT3)/I2C1_SDA(ALT4)/SPI1_MISO(ALT5)/ESC0_GPI_51(ALT10)/ESC0_GPO_12(ALT11)/FEMC_DM_2(ALT12)/PPI0_DM_2(ALT13)/XPI0_CA_D_2(ALT14)/PWM1_P_4(ALT16)/TRGM_P_12(ALT17)/ESC0_GPI_03(ALT18)/QEI3_H0(ALT20)/SEI2_CK(ALT22), C9 GPIO_C_15(ALT0)/GPTMR0_COMP_3(ALT1)/UART3_TXD(ALT2)/SPI1_DAT3(ALT5)/MCAN3_TXD(ALT7)/ESC0_GPI_48(ALT10)/ESC0_GPO_15(ALT11)/FEMC_DM_3(ALT12)/PPI0_DM_3(ALT13)/XPI0_CA_D_0(ALT14)/PWM1_P_7(ALT16)/TRGM_P_15(ALT17)/ESC0_GPI_00(ALT18)/QEI3_A(ALT20)/QEO2_A(ALT21)/SEI2_TX(ALT22), D6 GPIO_C_09(ALT0)/GPTMR0_CAPT_1(ALT1)/UART2_RXD(ALT2)/I2C0_SDA(ALT4)/SPI1_CS_1(ALT5)/MCAN2_RXD(ALT7)/ESC0_GPI_54(ALT10)/ESC0_GPO_09(ALT11)/FEMC_DQ_23(ALT12)/PPI0_DQ_23(ALT13)/XPI0_CB_CS1(ALT14)/PWM1_P_1(ALT16)/TRGM_P_09(ALT17)/ESC0_GPI_06(ALT18)/SDM1_DAT_0(ALT23), D7 GPIO_C_10(ALT0)/GPTMR0_COMP_2(ALT1)/UART2_DE(ALT2)/UART2_RTS(ALT3)/SPI1_SCLK(ALT5)/MCAN2_STBY(ALT7)/ESC0_GPI_53(ALT10)/ESC0_GPO_10(ALT11)/FEMC_DQ_20(ALT12)/PPI0_DQ_20(ALT13)/XPI0_CB_D_0(ALT14)/PWM1_P_2(ALT16)/TRGM_P_10(ALT17)/ESC0_GPI_05(ALT18)/QEI3_F(ALT20)/SDM1_CLK_1(ALT23), D8 GPIO_C_13(ALT0)/GPTMR1_COMP_3(ALT1)/UART3_DE(ALT2)/UART3_RTS(ALT3)/I2C1_SCL(ALT4)/SPI1_MOSI(ALT5)/MCAN3_STBY(ALT7)/ESC0_GPI_50(ALT10)/ESC0_GPO_13(ALT11)/FEMC_DQ_18(ALT12)/PPI0_DQ_18(ALT13)/XPI0_CA_CS1(ALT14)/PWM1_P_5(ALT16)/TRGM_P_13(ALT17)/ESC0_GPI_02(ALT18)/QEI3_Z(ALT20)/QEO2_Z(ALT21)/SEI2_DE(ALT22)/SDM1_CLK_2(ALT23), D9 GPIO_C_16(ALT0)/GPTMR3_COMP_0(ALT1)/UART4_TXD(ALT2)/MCAN4_TXD(ALT7)/ESC0_GPI_47(ALT10)/ESC0_GPO_16(ALT11)/FEMC_DQ_16(ALT12)/PPI0_DQ_16(ALT13)/XPI0_CA_DQS(ALT14)/PWM2_P_0(ALT16)/TRGM_P_16(ALT17)/SDM1_CLK_3(ALT23), E7 GPIO_C_11(ALT0)/UART2_CTS(ALT3)/SPI1_CS_0(ALT5)/ESC0_GPI_52(ALT10)/ESC0_GPO_11(ALT11)/FEMC_DQ_21(ALT12)/PPI0_DQ_21(ALT13)/XPI0_CB_DQS(ALT14)/PWM1_P_3(ALT16)/TRGM_P_11(ALT17)/ESC0_GPI_04(ALT18)/QEI3_H1(ALT20)/SDM1_DAT_1(ALT23), E8 GPIO_C_14(ALT0)/UART3_RXD(ALT2)/SPI1_DAT2(ALT5)/MCAN3_RXD(ALT7)/ESC0_GPI_49(ALT10)/ESC0_GPO_14(ALT11)/FEMC_DQ_19(ALT12)/PPI0_DQ_19(ALT13)/PWM1_P_6(ALT16)/TRGM_P_14(ALT17)/ESC0_GPI_01(ALT18)/QEI3_B(ALT20)/QEO2_B(ALT21)/SEI2_RX(ALT22)/SDM1_DAT_2(ALT23), E9 GPIO_C_17(ALT0)/GPTMR3_CAPT_0(ALT1)/UART4_RXD(ALT2)/MCAN4_RXD(ALT7)/ESC0_GPI_46(ALT10)/ESC0_GPO_17(ALT11)/FEMC_DQ_17(ALT12)/PPI0_DQ_17(ALT13)/PWM2_P_1(ALT16)/TRGM_P_17(ALT17)/SDM1_DAT_3(ALT23)
part F pins: B17 GPIO_D_14(ALT0)/UART11_RXD(ALT2)/SPI5_DAT2(ALT5)/MCAN3_RXD(ALT7)/ESC0_GPI_17(ALT10)/ESC0_GPO_46(ALT11)/FEMC_DQ_08(ALT12)/PPI0_DQ_08(ALT13)/PWM1_P_6(ALT16)/TRGM_P_14(ALT17)/ESC0_REFCK(ALT18)/QEI3_B(ALT20)/QEO2_B(ALT21)/SEI2_RX(ALT22)/SYSCTL_CLK_OBS_3(ALT24), C10 GPIO_D_00(ALT0)/GPTMR5_COMP_0(ALT1)/UART8_TXD(ALT2)/MCAN0_TXD(ALT7)/ESC0_GPI_31(ALT10)/ESC0_GPO_32(ALT11)/FEMC_A_02(ALT12)/PPI0_DQ_02(ALT13)/PWM0_P_0(ALT16)/TRGM_P_00(ALT17)/ESC0_REFCK(ALT18)/XPI_SLV_ADQ_2(ALT30), C12 GPIO_D_05(ALT0)/GPTMR5_COMP_2(ALT1)/UART9_DE(ALT2)/UART9_RTS(ALT3)/SPI4_CS_0(ALT5)/MCAN1_TXD(ALT7)/ESC0_GPI_26(ALT10)/ESC0_GPO_37(ALT11)/FEMC_BA0(ALT12)/PPI0_DQ_13(ALT13)/PWM0_P_5(ALT16)/TRGM_P_05(ALT17)/QEI0_Z(ALT20)/QEO0_Z(ALT21)/SEI0_DE(ALT22), C13 GPIO_D_08(ALT0)/GPTMR4_COMP_1(ALT1)/UART10_TXD(ALT2)/I2C0_SCL(ALT4)/SPI5_CS_2(ALT5)/MCAN2_TXD(ALT7)/ESC0_GPI_23(ALT10)/ESC0_GPO_40(ALT11)/FEMC_CS_1(ALT12)/PPI0_CS_3(ALT13)/PWM1_P_0(ALT16)/TRGM_P_08(ALT17), C14 GPIO_D_11(ALT0)/UART10_CTS(ALT3)/SPI5_CS_0(ALT5)/ESC0_GPI_20(ALT10)/ESC0_GPO_43(ALT11)/FEMC_CS_0(ALT12)/PPI0_CS_2(ALT13)/PWM1_P_3(ALT16)/TRGM_P_11(ALT17)/QEI3_H1(ALT20), C15 GPIO_D_13(ALT0)/GPTMR5_COMP_3(ALT1)/UART11_DE(ALT2)/UART11_RTS(ALT3)/I2C1_SCL(ALT4)/SPI5_MOSI(ALT5)/MCAN3_STBY(ALT7)/ESC0_GPI_18(ALT10)/ESC0_GPO_45(ALT11)/FEMC_CAS(ALT12)/PPI0_DM_1(ALT13)/PWM1_P_5(ALT16)/TRGM_P_13(ALT17)/QEI3_Z(ALT20)/QEO2_Z(ALT21)/SEI2_DE(ALT22), C16 GPIO_D_15(ALT0)/GPTMR4_COMP_3(ALT1)/UART11_TXD(ALT2)/SPI5_DAT3(ALT5)/MCAN3_TXD(ALT7)/ESC0_GPI_16(ALT10)/ESC0_GPO_47(ALT11)/FEMC_DM_1(ALT12)/PPI0_DM_1(ALT13)/PWM1_P_7(ALT16)/TRGM_P_15(ALT17)/ESC0_REFCK(ALT18)/QEI3_A(ALT20)/QEO2_A(ALT21)/SEI2_TX(ALT22)/SYSCTL_CLK_OBS_2(ALT24), C17 GPIO_D_16(ALT0)/GPTMR7_COMP_0(ALT1)/UART12_TXD(ALT2)/MCAN4_TXD(ALT7)/ESC0_GPI_15(ALT10)/ESC0_GPO_48(ALT11)/FEMC_DQ_10(ALT12)/PPI0_DQ_10(ALT13)/PWM2_P_0(ALT16)/TRGM_P_16(ALT17)/ESC0_GPO_00(ALT18)/SYSCTL_CLK_OBS_0(ALT24), D10 GPIO_D_01(ALT0)/GPTMR5_CAPT_0(ALT1)/UART8_RXD(ALT2)/MCAN0_RXD(ALT7)/ESC0_GPI_30(ALT10)/ESC0_GPO_33(ALT11)/FEMC_A_03(ALT12)/PPI0_DQ_03(ALT13)/PWM0_P_1(ALT16)/TRGM_P_01(ALT17)/ESC0_REFCK(ALT18)/XPI_SLV_CSN(ALT30), D11 GPIO_D_03(ALT0)/GPTMR5_CAPT_1(ALT1)/UART8_CTS(ALT3)/I2C2_SDA(ALT4)/SPI5_CS_3(ALT5)/MCAN1_STBY(ALT7)/ESC0_GPI_28(ALT10)/ESC0_GPO_35(ALT11)/FEMC_A_01(ALT12)/PPI0_DQ_01(ALT13)/PWM0_P_3(ALT16)/TRGM_P_03(ALT17)/ESC0_SDA(ALT18)/QEI0_F(ALT20)/XPI_SLV_CLK(ALT30), D12 GPIO_D_06(ALT0)/GPTMR4_CAPT_0(ALT1)/UART9_RXD(ALT2)/I2C3_SDA(ALT4)/SPI4_MISO(ALT5)/ESC0_GPI_25(ALT10)/ESC0_GPO_38(ALT11)/FEMC_BA1(ALT12)/PPI0_DQ_14(ALT13)/PWM0_P_6(ALT16)/TRGM_P_06(ALT17)/QEI0_B(ALT20)/QEO0_B(ALT21)/SEI0_RX(ALT22), D13 GPIO_D_09(ALT0)/GPTMR4_CAPT_1(ALT1)/UART10_RXD(ALT2)/I2C0_SDA(ALT4)/SPI5_CS_1(ALT5)/MCAN2_RXD(ALT7)/ESC0_GPI_22(ALT10)/ESC0_GPO_41(ALT11)/FEMC_DQS(ALT12)/PWM1_P_1(ALT16)/TRGM_P_09(ALT17), D15 GPIO_D_12(ALT0)/UART11_CTS(ALT3)/I2C1_SDA(ALT4)/SPI5_MISO(ALT5)/ESC0_GPI_19(ALT10)/ESC0_GPO_44(ALT11)/FEMC_WE(ALT12)/PPI0_DQ_15(ALT13)/PWM1_P_4(ALT16)/TRGM_P_12(ALT17)/QEI3_H0(ALT20)/SEI2_CK(ALT22)/CPU1_NMI(ALT24), D16 GPIO_D_17(ALT0)/GPTMR7_CAPT_0(ALT1)/UART12_RXD(ALT2)/MCAN4_RXD(ALT7)/ESC0_GPI_14(ALT10)/ESC0_GPO_49(ALT11)/FEMC_DQ_09(ALT12)/PPI0_DQ_09(ALT13)/PWM2_P_1(ALT16)/TRGM_P_17(ALT17)/ESC0_GPO_01(ALT18)/SYSCTL_CLK_OBS_1(ALT24), D17 GPIO_D_18(ALT0)/GPTMR7_COMP_1(ALT1)/UART12_DE(ALT2)/UART12_RTS(ALT3)/I2C6_SCL(ALT4)/MCAN4_STBY(ALT7)/ESC0_GPI_13(ALT10)/ESC0_GPO_50(ALT11)/FEMC_DQ_12(ALT12)/PPI0_DQ_12(ALT13)/PWM2_P_2(ALT16)/TRGM_P_18(ALT17)/ESC0_GPO_02(ALT18)/QEI2_H1(ALT20), E10 GPIO_D_02(ALT0)/GPTMR5_COMP_1(ALT1)/UART8_DE(ALT2)/UART8_RTS(ALT3)/I2C2_SCL(ALT4)/MCAN0_STBY(ALT7)/ESC0_GPI_29(ALT10)/ESC0_GPO_34(ALT11)/FEMC_A_00(ALT12)/PPI0_DQ_00(ALT13)/PWM0_P_2(ALT16)/TRGM_P_02(ALT17)/ESC0_SCL(ALT18)/QEI0_H1(ALT20)/XPI_SLV_ERR(ALT30), E11 GPIO_D_04(ALT0)/UART9_CTS(ALT3)/SPI4_SCLK(ALT5)/MCAN1_RXD(ALT7)/ESC0_GPI_27(ALT10)/ESC0_GPO_36(ALT11)/FEMC_A_10(ALT12)/PPI0_DQ_10(ALT13)/PWM0_P_4(ALT16)/TRGM_P_04(ALT17)/QEI0_H0(ALT20)/SEI0_CK(ALT22), E12 GPIO_D_07(ALT0)/GPTMR4_COMP_0(ALT1)/UART9_TXD(ALT2)/I2C3_SCL(ALT4)/SPI4_MOSI(ALT5)/ESC0_GPI_24(ALT10)/ESC0_GPO_39(ALT11)/FEMC_SCLK_1(ALT12)/PPI0_CTR_3(ALT13)/PWM0_P_7(ALT16)/TRGM_P_07(ALT17)/QEI0_A(ALT20)/QEO0_A(ALT21)/SEI0_TX(ALT22), E13 GPIO_D_10(ALT0)/GPTMR4_COMP_2(ALT1)/UART10_DE(ALT2)/UART10_RTS(ALT3)/SPI5_SCLK(ALT5)/MCAN2_STBY(ALT7)/ESC0_GPI_21(ALT10)/ESC0_GPO_42(ALT11)/FEMC_RAS(ALT12)/PPI0_CTR_1(ALT13)/PWM1_P_2(ALT16)/TRGM_P_10(ALT17)/QEI3_F(ALT20), E14 GPIO_D_24(ALT0)/GPTMR6_COMP_1(ALT1)/UART14_TXD(ALT2)/I2C4_SCL(ALT4)/SPI6_CS_2(ALT5)/MCAN6_TXD(ALT7)/ESC0_GPI_07(ALT10)/ESC0_GPO_56(ALT11)/FEMC_DQ_06(ALT12)/PPI0_DQ_06(ALT13)/PWM3_P_0(ALT16)/TRGM_P_24(ALT17)/ESC0_GPO_08(ALT18)/SDM0_DAT_3(ALT23)/CPU0_NMI(ALT24), E15 GPIO_D_23(ALT0)/GPTMR6_COMP_0(ALT1)/UART13_TXD(ALT2)/I2C7_SCL(ALT4)/SPI7_MOSI(ALT5)/ESC0_GPI_08(ALT10)/ESC0_GPO_55(ALT11)/FEMC_DM_0(ALT12)/PPI0_DM_0(ALT13)/PWM2_P_7(ALT16)/TRGM_P_23(ALT17)/ESC0_GPO_07(ALT18)/QEI2_A(ALT20)/QEO1_A(ALT21)/SEI1_TX(ALT22), E16 GPIO_D_19(ALT0)/GPTMR7_CAPT_1(ALT1)/UART12_CTS(ALT3)/I2C6_SDA(ALT4)/SPI6_CS_3(ALT5)/MCAN5_STBY(ALT7)/ESC0_GPI_12(ALT10)/ESC0_GPO_51(ALT11)/FEMC_DQ_11(ALT12)/PPI0_DQ_11(ALT13)/PWM2_P_3(ALT16)/TRGM_P_19(ALT17)/ESC0_GPO_03(ALT18)/QEI2_F(ALT20), E17 GPIO_D_20(ALT0)/UART13_CTS(ALT3)/SPI7_SCLK(ALT5)/MCAN5_RXD(ALT7)/ESC0_GPI_11(ALT10)/ESC0_GPO_52(ALT11)/FEMC_DQ_14(ALT12)/PPI0_DQ_14(ALT13)/PWM2_P_4(ALT16)/TRGM_P_20(ALT17)/ESC0_GPO_04(ALT18)/QEI2_H0(ALT20)/SEI1_CK(ALT22), F13 GPIO_D_27(ALT0)/UART14_CTS(ALT3)/SPI6_CS_0(ALT5)/ESC0_GPI_04(ALT10)/ESC0_GPO_59(ALT11)/FEMC_DQ_04(ALT12)/PPI0_DQ_04(ALT13)/PWM3_P_3(ALT16)/TRGM_P_27(ALT17)/ESC0_GPO_11(ALT18)/QEI1_F(ALT20)/SDM0_DAT_2(ALT23), F14 GPIO_D_26(ALT0)/GPTMR6_COMP_2(ALT1)/UART14_DE(ALT2)/UART14_RTS(ALT3)/SPI6_SCLK(ALT5)/MCAN6_STBY(ALT7)/ESC0_GPI_05(ALT10)/ESC0_GPO_58(ALT11)/FEMC_DQ_05(ALT12)/PPI0_DQ_05(ALT13)/PWM3_P_2(ALT16)/TRGM_P_26(ALT17)/ESC0_GPO_10(ALT18)/QEI1_H1(ALT20)/SDM0_CLK_2(ALT23), F15 GPIO_D_25(ALT0)/GPTMR6_CAPT_1(ALT1)/UART14_RXD(ALT2)/I2C4_SDA(ALT4)/SPI6_CS_1(ALT5)/MCAN6_RXD(ALT7)/ESC0_GPI_06(ALT10)/ESC0_GPO_57(ALT11)/FEMC_DQ_07(ALT12)/PPI0_DQ_07(ALT13)/PWM3_P_1(ALT16)/TRGM_P_25(ALT17)/ESC0_GPO_09(ALT18)/SDM0_CLK_3(ALT23), F16 GPIO_D_21(ALT0)/GPTMR7_COMP_2(ALT1)/UART13_DE(ALT2)/UART13_RTS(ALT3)/SPI7_CS_0(ALT5)/MCAN5_TXD(ALT7)/ESC0_GPI_10(ALT10)/ESC0_GPO_53(ALT11)/FEMC_DQ_13(ALT12)/PPI0_DQ_13(ALT13)/PWM2_P_5(ALT16)/TRGM_P_21(ALT17)/ESC0_GPO_05(ALT18)/QEI2_Z(ALT20)/QEO1_Z(ALT21)/SEI1_DE(ALT22), F17 GPIO_D_22(ALT0)/GPTMR6_CAPT_0(ALT1)/UART13_RXD(ALT2)/I2C7_SDA(ALT4)/SPI7_MISO(ALT5)/ESC0_GPI_09(ALT10)/ESC0_GPO_54(ALT11)/FEMC_DQ_15(ALT12)/PPI0_DQ_15(ALT13)/PWM2_P_6(ALT16)/TRGM_P_22(ALT17)/ESC0_GPO_06(ALT18)/QEI2_B(ALT20)/QEO1_B(ALT21)/SEI1_RX(ALT22), G13 GPIO_D_29(ALT0)/GPTMR7_COMP_3(ALT1)/UART15_DE(ALT2)/UART15_RTS(ALT3)/I2C5_SCL(ALT4)/SPI6_MOSI(ALT5)/MCAN7_STBY(ALT7)/ESC0_GPI_02(ALT10)/ESC0_GPO_61(ALT11)/FEMC_DQ_02(ALT12)/PPI0_DQ_02(ALT13)/PWM3_P_5(ALT16)/TRGM_P_29(ALT17)/ESC0_GPO_13(ALT18)/QEI1_Z(ALT20)/QEO3_Z(ALT21)/SEI3_DE(ALT22)/SDM0_DAT_1(ALT23), G14 GPIO_D_28(ALT0)/UART15_CTS(ALT3)/I2C5_SDA(ALT4)/SPI6_MISO(ALT5)/ESC0_GPI_03(ALT10)/ESC0_GPO_60(ALT11)/FEMC_DQ_03(ALT12)/PPI0_DQ_03(ALT13)/PWM3_P_4(ALT16)/TRGM_P_28(ALT17)/ESC0_GPO_12(ALT18)/QEI1_H0(ALT20)/SEI3_CK(ALT22)/SDM0_CLK_1(ALT23), H14 GPIO_D_31(ALT0)/GPTMR6_COMP_3(ALT1)/UART15_TXD(ALT2)/SPI6_DAT3(ALT5)/MCAN7_TXD(ALT7)/ESC0_GPI_00(ALT10)/ESC0_GPO_63(ALT11)/FEMC_DQ_00(ALT12)/PPI0_DQ_00(ALT13)/PWM3_P_7(ALT16)/TRGM_P_31(ALT17)/ESC0_GPO_15(ALT18)/QEI1_B(ALT20)/QEO3_A(ALT21)/SEI3_TX(ALT22)/SDM0_DAT_0(ALT23), H15 GPIO_D_30(ALT0)/UART15_RXD(ALT2)/SPI6_DAT2(ALT5)/MCAN7_RXD(ALT7)/ESC0_GPI_01(ALT10)/ESC0_GPO_62(ALT11)/FEMC_DQ_01(ALT12)/PPI0_DQ_01(ALT13)/PWM3_P_6(ALT16)/TRGM_P_30(ALT17)/ESC0_GPO_14(ALT18)/QEI1_A(ALT20)/QEO3_B(ALT21)/SEI3_RX(ALT22)/SDM0_CLK_0(ALT23)
part G pins: G16 GPIO_E_01(ALT0)/GPTMR1_CAPT_0(ALT1)/UART0_RXD(ALT2)/MCAN0_RXD(ALT7)/DAO_RP(ALT9)/TSW0_P1_MDIO(ALT10)/ESC0_CTR_5(ALT11)/PPI0_CTR_5(ALT13)/PWM0_P_1(ALT16)/TRGM_P_01(ALT17)/RDC0_PWM_P(ALT20)/QEO1_B(ALT21)/SEI1_RX(ALT22)/SDM1_CLK_2(ALT23), G17 GPIO_E_00(ALT0)/GPTMR1_COMP_0(ALT1)/UART0_TXD(ALT2)/MCAN0_TXD(ALT7)/TSW0_P1_MDC(ALT10)/ESC0_CTR_4(ALT11)/PPI0_CTR_4(ALT13)/PWM0_P_0(ALT16)/TRGM_P_00(ALT17)/RDC0_PWM_N(ALT20)/QEO1_A(ALT21)/SEI1_TX(ALT22)/SDM1_DAT_2(ALT23)/USB0_ID(ALT24)/ETH0_EVTO_1(ALT25)/TSW0_EVTO_1(ALT26)/ESC0_EVTO_1(ALT27), H13 GPIO_E_10(ALT0)/GPTMR0_COMP_2(ALT1)/UART2_DE(ALT2)/UART2_RTS(ALT3)/SPI0_SCLK(ALT5)/MCAN2_STBY(ALT7)/TSW0_P1_RXD_1(ALT10)/ESC0_P2_RXD_1(ALT11)/PWM1_P_2(ALT16)/TRGM_P_10(ALT17)/QEI3_F(ALT20)/QEO2_Z(ALT21)/SEI2_DE(ALT22), H16 GPIO_E_03(ALT0)/GPTMR1_CAPT_1(ALT1)/UART0_CTS(ALT3)/I2C2_SDA(ALT4)/SPI0_CS_3(ALT5)/MCAN1_STBY(ALT7)/TSW0_P2_MDC(ALT10)/ESC0_CTR_1(ALT11)/PPI0_CTR_7(ALT13)/PWM0_P_3(ALT16)/TRGM_P_03(ALT17)/QEI0_F(ALT20)/RDC1_PWM_N(ALT21)/SEI1_CK(ALT22)/SDM1_DAT_1(ALT23)/USB0_OC(ALT24)/ETH0_EVTO_2(ALT25)/TSW0_EVTO_2(ALT26), H17 GPIO_E_02(ALT0)/GPTMR1_COMP_1(ALT1)/UART0_DE(ALT2)/UART0_RTS(ALT3)/I2C2_SCL(ALT4)/MCAN0_STBY(ALT7)/DAO_LP(ALT9)/ESC0_CTR_6(ALT11)/PPI0_CTR_6(ALT13)/PWM0_P_2(ALT16)/TRGM_P_02(ALT17)/QEI0_H1(ALT20)/QEO1_Z(ALT21)/SEI1_DE(ALT22)/SDM1_DAT_3(ALT23), J13 GPIO_E_13(ALT0)/GPTMR1_COMP_3(ALT1)/UART3_DE(ALT2)/UART3_RTS(ALT3)/I2C1_SCL(ALT4)/SPI0_MOSI(ALT5)/MCAN3_STBY(ALT7)/TSW0_P1_RXCK(ALT10)/ESC0_P2_RXCK(ALT11)/PWM1_P_5(ALT16)/TRGM_P_13(ALT17)/QEI3_Z(ALT20)/QEO3_Z(ALT21)/SEI3_DE(ALT22), J14 GPIO_E_09(ALT0)/GPTMR0_CAPT_1(ALT1)/UART2_RXD(ALT2)/I2C0_SDA(ALT4)/SPI0_CS_1(ALT5)/MCAN2_RXD(ALT7)/TSW0_P1_RXD_0(ALT10)/ESC0_P2_RXD_0(ALT11)/PWM1_P_1(ALT16)/TRGM_P_09(ALT17)/RDC0_PWM_P(ALT20)/QEO2_A(ALT21)/SEI2_RX(ALT22), J15 GPIO_E_08(ALT0)/GPTMR0_COMP_1(ALT1)/UART2_TXD(ALT2)/I2C0_SCL(ALT4)/SPI0_CS_2(ALT5)/MCAN2_TXD(ALT7)/TSW0_P1_RXDV(ALT10)/ESC0_P2_RXDV(ALT11)/PWM1_P_0(ALT16)/TRGM_P_08(ALT17)/RDC0_PWM_N(ALT20)/QEO2_B(ALT21)/SEI2_TX(ALT22), J16 GPIO_E_05(ALT0)/GPTMR1_COMP_2(ALT1)/UART1_DE(ALT2)/UART1_RTS(ALT3)/SPI1_CS_0(ALT5)/MCAN1_TXD(ALT7)/DAO_LN(ALT9)/ESC0_CTR_3(ALT11)/PWM0_P_5(ALT16)/TRGM_P_05(ALT17)/QEI0_Z(ALT20)/QEO0_Z(ALT21)/SEI0_DE(ALT22)/SDM1_CLK_3(ALT23)/ETH0_EVTO_3(ALT25)/TSW0_EVTO_3(ALT26), J17 GPIO_E_04(ALT0)/UART1_CTS(ALT3)/SPI1_SCLK(ALT5)/MCAN1_RXD(ALT7)/DAO_RN(ALT9)/TSW0_P2_MDIO(ALT10)/ESC0_CTR_2(ALT11)/PWM0_P_4(ALT16)/TRGM_P_04(ALT17)/QEI0_H0(ALT20)/RDC1_PWM_P(ALT21)/SEI0_CK(ALT22)/SDM1_CLK_1(ALT23)/ETH0_EVTI_1(ALT25)/TSW0_EVTI_1(ALT26)/ESC0_EVTI_1(ALT27), K13 GPIO_E_16(ALT0)/GPTMR3_COMP_0(ALT1)/UART4_TXD(ALT2)/MCAN4_TXD(ALT7)/TSW0_P1_TXD_1(ALT10)/ESC0_P2_TXD_1(ALT11)/PWM2_P_0(ALT16)/TRGM_P_16(ALT17)/RDC0_PWM_N(ALT20)/QEO1_A(ALT21)/SEI1_TX(ALT22), K14 GPIO_E_12(ALT0)/UART3_CTS(ALT3)/I2C1_SDA(ALT4)/SPI0_MISO(ALT5)/TSW0_P1_RXD_3(ALT10)/ESC0_P2_RXD_3(ALT11)/PWM1_P_4(ALT16)/TRGM_P_12(ALT17)/QEI3_H0(ALT20)/RDC1_PWM_P(ALT21)/SEI3_CK(ALT22), K15 GPIO_E_11(ALT0)/UART2_CTS(ALT3)/SPI0_CS_0(ALT5)/TSW0_P1_RXD_2(ALT10)/ESC0_P2_RXD_2(ALT11)/PWM1_P_3(ALT16)/TRGM_P_11(ALT17)/QEI3_H1(ALT20)/RDC1_PWM_N(ALT21)/SEI2_CK(ALT22), K16 GPIO_E_07(ALT0)/GPTMR0_COMP_0(ALT1)/UART1_TXD(ALT2)/I2C3_SCL(ALT4)/SPI1_MOSI(ALT5)/TSW0_P3_MDIO(ALT10)/ESC0_CTR_0(ALT11)/PWM0_P_7(ALT16)/TRGM_P_07(ALT17)/ETH0_COL(ALT18)/QEI0_A(ALT20)/QEO0_A(ALT21)/SEI0_TX(ALT22)/SDM1_CLK_0(ALT23)/ETH0_EVTI_0(ALT25)/TSW0_EVTI_0(ALT26)/ESC0_EVTI_0(ALT27), K17 GPIO_E_06(ALT0)/GPTMR0_CAPT_0(ALT1)/UART1_RXD(ALT2)/I2C3_SDA(ALT4)/SPI1_MISO(ALT5)/TSW0_P3_MDC(ALT10)/ESC0_REFCK(ALT11)/PWM0_P_6(ALT16)/TRGM_P_06(ALT17)/ETH0_CRS(ALT18)/QEI0_B(ALT20)/QEO0_B(ALT21)/SEI0_RX(ALT22)/SDM1_DAT_0(ALT23)/USB0_PWR(ALT24)/ETH0_EVTO_0(ALT25)/TSW0_EVTO_0(ALT26)/ESC0_EVTO_0(ALT27), L13 GPIO_E_15(ALT0)/GPTMR0_COMP_3(ALT1)/UART3_TXD(ALT2)/SPI0_DAT3(ALT5)/MCAN3_TXD(ALT7)/TSW0_P1_TXD_0(ALT10)/ESC0_P2_TXD_0(ALT11)/PWM1_P_7(ALT16)/TRGM_P_15(ALT17)/QEI3_A(ALT20)/QEO3_A(ALT21)/SEI3_TX(ALT22), L14 GPIO_E_14(ALT0)/UART3_RXD(ALT2)/SPI0_DAT2(ALT5)/MCAN3_RXD(ALT7)/TSW0_P1_TXCK(ALT10)/ESC0_P2_TXCK(ALT11)/PWM1_P_6(ALT16)/TRGM_P_14(ALT17)/QEI3_B(ALT20)/QEO3_B(ALT21)/SEI3_RX(ALT22), M13 GPIO_E_19(ALT0)/GPTMR3_CAPT_1(ALT1)/UART4_CTS(ALT3)/I2C6_SDA(ALT4)/SPI3_CS_3(ALT5)/MCAN5_STBY(ALT7)/TSW0_P1_TXEN(ALT10)/ESC0_P2_TXEN(ALT11)/PWM2_P_3(ALT16)/TRGM_P_19(ALT17)/QEI2_F(ALT20)/RDC1_PWM_N(ALT21)/SEI1_CK(ALT22), M14 GPIO_E_18(ALT0)/GPTMR3_COMP_1(ALT1)/UART4_DE(ALT2)/UART4_RTS(ALT3)/I2C6_SCL(ALT4)/MCAN4_STBY(ALT7)/TSW0_P1_TXD_3(ALT10)/ESC0_P2_TXD_3(ALT11)/PWM2_P_2(ALT16)/TRGM_P_18(ALT17)/QEI2_H1(ALT20)/QEO1_Z(ALT21)/SEI1_DE(ALT22), M15 GPIO_E_17(ALT0)/GPTMR3_CAPT_0(ALT1)/UART4_RXD(ALT2)/MCAN4_RXD(ALT7)/TSW0_P1_TXD_2(ALT10)/ESC0_P2_TXD_2(ALT11)/PWM2_P_1(ALT16)/TRGM_P_17(ALT17)/RDC0_PWM_P(ALT20)/QEO1_B(ALT21)/SEI1_RX(ALT22), N15 GPIO_E_28(ALT0)/UART7_CTS(ALT3)/I2C5_SDA(ALT4)/SPI3_MISO(ALT5)/I2S1_TXD_2(ALT8)/TSW0_P3_TXD_1(ALT10)/ESC0_P2_TXD_1(ALT11)/PWM3_P_4(ALT16)/TRGM_P_28(ALT17)/ETH0_TXD_1(ALT18)/QEI1_H0(ALT20)/RDC1_PWM_P(ALT21)/SEI3_CK(ALT22), N16 GPIO_E_27(ALT0)/UART6_CTS(ALT3)/SPI3_CS_0(ALT5)/I2S1_TXD_1(ALT8)/TSW0_P3_TXD_0(ALT10)/ESC0_P2_TXD_0(ALT11)/PWM3_P_3(ALT16)/TRGM_P_27(ALT17)/ETH0_TXD_0(ALT18)/QEI1_F(ALT20)/RDC1_PWM_N(ALT21)/SEI2_CK(ALT22), N17 GPIO_E_26(ALT0)/GPTMR2_COMP_2(ALT1)/UART6_DE(ALT2)/UART6_RTS(ALT3)/SPI3_SCLK(ALT5)/MCAN6_STBY(ALT7)/I2S1_MCLK(ALT8)/TSW0_P3_TXCK(ALT10)/ESC0_P2_TXCK(ALT11)/PWM3_P_2(ALT16)/TRGM_P_26(ALT17)/ETH0_TXCK(ALT18)/QEI1_H1(ALT20)/QEO2_Z(ALT21)/SEI2_DE(ALT22), P15 GPIO_E_31(ALT0)/GPTMR2_COMP_3(ALT1)/UART7_TXD(ALT2)/SPI3_DAT3(ALT5)/MCAN7_TXD(ALT7)/I2S1_BCLK(ALT8)/TSW0_P3_TXEN(ALT10)/ESC0_P2_TXEN(ALT11)/PWM3_P_7(ALT16)/TRGM_P_31(ALT17)/ETH0_TXEN(ALT18)/QEI1_B(ALT20)/QEO3_A(ALT21)/SEI3_TX(ALT22), P16 GPIO_E_30(ALT0)/UART7_RXD(ALT2)/SPI3_DAT2(ALT5)/MCAN7_RXD(ALT7)/I2S1_TXD_3(ALT8)/TSW0_P3_TXD_3(ALT10)/ESC0_P2_TXD_3(ALT11)/PWM3_P_6(ALT16)/TRGM_P_30(ALT17)/ETH0_TXD_3(ALT18)/QEI1_A(ALT20)/QEO3_B(ALT21)/SEI3_RX(ALT22), P17 GPIO_E_29(ALT0)/GPTMR3_COMP_3(ALT1)/UART7_DE(ALT2)/UART7_RTS(ALT3)/I2C5_SCL(ALT4)/SPI3_MOSI(ALT5)/MCAN7_STBY(ALT7)/I2S1_TXD_0(ALT8)/TSW0_P3_TXD_2(ALT10)/ESC0_P2_TXD_2(ALT11)/PWM3_P_5(ALT16)/TRGM_P_29(ALT17)/ETH0_TXD_2(ALT18)/QEI1_Z(ALT20)/QEO3_Z(ALT21)/SEI3_DE(ALT22), R15 GPIO_E_22(ALT0)/GPTMR2_CAPT_0(ALT1)/UART5_RXD(ALT2)/I2C7_SDA(ALT4)/SPI2_MISO(ALT5)/I2S1_RXD_0(ALT8)/TSW0_P3_RXD_1(ALT10)/ESC0_P2_RXD_1(ALT11)/PWM2_P_6(ALT16)/TRGM_P_22(ALT17)/ETH0_RXD_1(ALT18)/QEI2_B(ALT20)/QEO0_B(ALT21)/SEI0_RX(ALT22), R16 GPIO_E_21(ALT0)/GPTMR3_COMP_2(ALT1)/UART5_DE(ALT2)/UART5_RTS(ALT3)/SPI2_CS_0(ALT5)/MCAN5_TXD(ALT7)/I2S1_RXD_2(ALT8)/TSW0_P3_RXD_0(ALT10)/ESC0_P2_RXD_0(ALT11)/PWM2_P_5(ALT16)/TRGM_P_21(ALT17)/ETH0_RXD_0(ALT18)/QEI2_Z(ALT20)/QEO0_Z(ALT21)/SEI0_DE(ALT22), R17 GPIO_E_20(ALT0)/UART5_CTS(ALT3)/SPI2_SCLK(ALT5)/MCAN5_RXD(ALT7)/I2S1_FCLK(ALT8)/TSW0_P3_RXDV(ALT10)/ESC0_P2_RXDV(ALT11)/PWM2_P_4(ALT16)/TRGM_P_20(ALT17)/ETH0_RXDV(ALT18)/QEI2_H0(ALT20)/RDC1_PWM_P(ALT21)/SEI0_CK(ALT22), T16 GPIO_E_24(ALT0)/GPTMR2_COMP_1(ALT1)/UART6_TXD(ALT2)/I2C4_SCL(ALT4)/SPI3_CS_2(ALT5)/MCAN6_TXD(ALT7)/I2S1_RXD_3(ALT8)/TSW0_P3_RXD_3(ALT10)/ESC0_P2_RXD_3(ALT11)/PWM3_P_0(ALT16)/TRGM_P_24(ALT17)/ETH0_RXD_3(ALT18)/RDC0_PWM_N(ALT20)/QEO2_A(ALT21)/SEI2_TX(ALT22), T17 GPIO_E_23(ALT0)/GPTMR2_COMP_0(ALT1)/UART5_TXD(ALT2)/I2C7_SCL(ALT4)/SPI2_MOSI(ALT5)/I2S1_MCLK(ALT8)/TSW0_P3_RXD_2(ALT10)/ESC0_P2_RXD_2(ALT11)/PWM2_P_7(ALT16)/TRGM_P_23(ALT17)/ETH0_RXD_2(ALT18)/QEI2_A(ALT20)/QEO0_A(ALT21)/SEI0_TX(ALT22), U16 GPIO_E_25(ALT0)/GPTMR2_CAPT_1(ALT1)/UART6_RXD(ALT2)/I2C4_SDA(ALT4)/SPI3_CS_1(ALT5)/MCAN6_RXD(ALT7)/I2S1_RXD_1(ALT8)/TSW0_P3_RXCK(ALT10)/ESC0_P2_RXCK(ALT11)/PWM3_P_1(ALT16)/TRGM_P_25(ALT17)/ETH0_RXCK(ALT18)/RDC0_PWM_P(ALT20)/QEO2_B(ALT21)/SEI2_RX(ALT22)
part H pins: N9 GPIO_F_30(ALT0)/UART15_RXD(ALT2)/SPI7_DAT2(ALT5)/MCAN7_RXD(ALT7)/PWM3_P_6(ALT16)/TRGM_P_30(ALT17)/SDM1_CLK_3(ALT23), N10 GPIO_F_29(ALT0)/GPTMR7_COMP_3(ALT1)/UART15_DE(ALT2)/UART15_RTS(ALT3)/I2C5_SCL(ALT4)/SPI7_MOSI(ALT5)/MCAN7_STBY(ALT7)/PWM3_P_5(ALT16)/TRGM_P_29(ALT17)/SDM1_CLK_2(ALT23), N11 GPIO_F_21(ALT0)/GPTMR7_COMP_2(ALT1)/UART13_DE(ALT2)/UART13_RTS(ALT3)/SPI6_CS_0(ALT5)/MCAN5_TXD(ALT7)/PWM2_P_5(ALT16)/TRGM_P_21(ALT17)/SDM0_DAT_2(ALT23)/USB0_ID(ALT24)/ETH0_EVTI_0(ALT25)/TSW0_EVTI_0(ALT26)/ESC0_EVTI_0(ALT27), N12 GPIO_F_01(ALT0)/GPTMR5_CAPT_0(ALT1)/UART8_RXD(ALT2)/MCAN0_RXD(ALT7)/DAO_LP(ALT9)/TSW0_P3_MDIO(ALT10)/ESC0_MDIO(ALT11)/PWM0_P_1(ALT16)/TRGM_P_01(ALT17)/ETH0_MDIO(ALT18)/QEO1_B(ALT21)/SEI1_RX(ALT22), N13 GPIO_F_03(ALT0)/GPTMR5_CAPT_1(ALT1)/UART8_CTS(ALT3)/I2C2_SDA(ALT4)/SPI4_CS_3(ALT5)/MCAN1_STBY(ALT7)/DAO_RN(ALT9)/TSW0_P3_TXD_0(ALT10)/ESC0_P1_TXD_0(ALT11)/PWM0_P_3(ALT16)/TRGM_P_03(ALT17)/ETH0_TXD_0(ALT18)/QEI0_F(ALT20)/SEI1_CK(ALT22), N14 GPIO_F_04(ALT0)/UART9_CTS(ALT3)/SPI5_SCLK(ALT5)/MCAN1_RXD(ALT7)/DAO_RP(ALT9)/TSW0_P3_TXD_1(ALT10)/ESC0_P1_TXD_1(ALT11)/PWM0_P_4(ALT16)/TRGM_P_04(ALT17)/ETH0_TXD_1(ALT18)/QEI0_H0(ALT20)/SEI0_CK(ALT22), P9 GPIO_F_24(ALT0)/GPTMR6_COMP_1(ALT1)/UART14_TXD(ALT2)/I2C4_SCL(ALT4)/SPI7_CS_2(ALT5)/MCAN6_TXD(ALT7)/PWM3_P_0(ALT16)/TRGM_P_24(ALT17)/SDM1_DAT_0(ALT23), P10 GPIO_F_25(ALT0)/GPTMR6_CAPT_1(ALT1)/UART14_RXD(ALT2)/I2C4_SDA(ALT4)/SPI7_CS_1(ALT5)/MCAN6_RXD(ALT7)/PWM3_P_1(ALT16)/TRGM_P_25(ALT17)/SDM1_CLK_0(ALT23), P11 GPIO_F_27(ALT0)/UART14_CTS(ALT3)/SPI7_CS_0(ALT5)/PWM3_P_3(ALT16)/TRGM_P_27(ALT17)/SDM1_CLK_1(ALT23), P12 GPIO_F_11(ALT0)/UART10_CTS(ALT3)/SPI4_CS_0(ALT5)/TSW0_P3_RXD_2(ALT10)/ESC0_P1_RXD_2(ALT11)/PWM1_P_3(ALT16)/TRGM_P_11(ALT17)/ETH0_RXD_2(ALT18)/QEI3_H1(ALT20)/SEI2_CK(ALT22), P13 GPIO_F_09(ALT0)/GPTMR4_CAPT_1(ALT1)/UART10_RXD(ALT2)/I2C0_SDA(ALT4)/SPI4_CS_1(ALT5)/MCAN2_RXD(ALT7)/TSW0_P3_RXD_0(ALT10)/ESC0_P1_RXD_0(ALT11)/PWM1_P_1(ALT16)/TRGM_P_09(ALT17)/ETH0_RXD_0(ALT18)/QEO2_A(ALT21)/SEI2_RX(ALT22), R8 GPIO_F_23(ALT0)/GPTMR6_COMP_0(ALT1)/UART13_TXD(ALT2)/I2C7_SCL(ALT4)/SPI6_MOSI(ALT5)/PWM2_P_7(ALT16)/TRGM_P_23(ALT17)/SDM0_CLK_3(ALT23)/USB0_OC(ALT24), R9 GPIO_F_31(ALT0)/GPTMR6_COMP_3(ALT1)/UART15_TXD(ALT2)/SPI7_DAT3(ALT5)/MCAN7_TXD(ALT7)/PWM3_P_7(ALT16)/TRGM_P_31(ALT17)/SDM1_DAT_3(ALT23), R10 GPIO_F_28(ALT0)/UART15_CTS(ALT3)/I2C5_SDA(ALT4)/SPI7_MISO(ALT5)/PWM3_P_4(ALT16)/TRGM_P_28(ALT17)/SDM1_DAT_2(ALT23)/CPU1_NMI(ALT24), R12 GPIO_F_08(ALT0)/GPTMR4_COMP_1(ALT1)/UART10_TXD(ALT2)/I2C0_SCL(ALT4)/SPI4_CS_2(ALT5)/MCAN2_TXD(ALT7)/TSW0_P3_RXDV(ALT10)/ESC0_P1_RXDV(ALT11)/PWM1_P_0(ALT16)/TRGM_P_08(ALT17)/ETH0_RXDV(ALT18)/QEO2_B(ALT21)/SEI2_TX(ALT22), R13 GPIO_F_07(ALT0)/GPTMR4_COMP_0(ALT1)/UART9_TXD(ALT2)/I2C3_SCL(ALT4)/SPI5_MOSI(ALT5)/TSW0_P3_TXEN(ALT10)/ESC0_P1_TXEN(ALT11)/PWM0_P_7(ALT16)/TRGM_P_07(ALT17)/ETH0_TXEN(ALT18)/QEI0_A(ALT20)/QEO0_A(ALT21)/SEI0_TX(ALT22), R14 GPIO_F_05(ALT0)/GPTMR5_COMP_2(ALT1)/UART9_DE(ALT2)/UART9_RTS(ALT3)/SPI5_CS_0(ALT5)/MCAN1_TXD(ALT7)/TSW0_P3_TXD_2(ALT10)/ESC0_P1_TXD_2(ALT11)/PWM0_P_5(ALT16)/TRGM_P_05(ALT17)/ETH0_TXD_2(ALT18)/QEI0_Z(ALT20)/QEO0_Z(ALT21)/SEI0_DE(ALT22), T8 GPIO_F_19(ALT0)/GPTMR7_CAPT_1(ALT1)/UART12_CTS(ALT3)/I2C6_SDA(ALT4)/SPI7_CS_3(ALT5)/MCAN5_STBY(ALT7)/PWM2_P_3(ALT16)/TRGM_P_19(ALT17)/SDM0_CLK_1(ALT23)/USB0_PWR(ALT24)/ETH0_EVTO_2(ALT25)/TSW0_EVTO_2(ALT26), T9 GPIO_F_22(ALT0)/GPTMR6_CAPT_0(ALT1)/UART13_RXD(ALT2)/I2C7_SDA(ALT4)/SPI6_MISO(ALT5)/PWM2_P_6(ALT16)/TRGM_P_22(ALT17)/SDM0_CLK_2(ALT23)/USB0_ID(ALT24)/ETH0_EVTI_1(ALT25)/TSW0_EVTI_1(ALT26)/ESC0_EVTI_1(ALT27), T10 GPIO_F_18(ALT0)/GPTMR7_COMP_1(ALT1)/UART12_DE(ALT2)/UART12_RTS(ALT3)/I2C6_SCL(ALT4)/MCAN4_STBY(ALT7)/PWM2_P_2(ALT16)/TRGM_P_18(ALT17)/SDM0_DAT_1(ALT23)/USB0_PWR(ALT24)/ETH0_EVTO_0(ALT25)/TSW0_EVTO_0(ALT26)/ESC0_EVTO_0(ALT27), T11 GPIO_F_20(ALT0)/UART13_CTS(ALT3)/SPI6_SCLK(ALT5)/MCAN5_RXD(ALT7)/PWM2_P_4(ALT16)/TRGM_P_20(ALT17)/SDM0_DAT_3(ALT23)/USB0_OC(ALT24)/ETH0_EVTO_1(ALT25)/TSW0_EVTO_1(ALT26)/ESC0_EVTO_1(ALT27), T12 GPIO_F_26(ALT0)/GPTMR6_COMP_2(ALT1)/UART14_DE(ALT2)/UART14_RTS(ALT3)/SPI7_SCLK(ALT5)/MCAN6_STBY(ALT7)/PWM3_P_2(ALT16)/TRGM_P_26(ALT17)/SDM1_DAT_1(ALT23)/CPU0_NMI(ALT24)/ETH0_EVTO_3(ALT25)/TSW0_EVTO_3(ALT26), T13 GPIO_F_00(ALT0)/GPTMR5_COMP_0(ALT1)/UART8_TXD(ALT2)/MCAN0_TXD(ALT7)/DAO_LN(ALT9)/TSW0_P3_MDC(ALT10)/ESC0_MDC(ALT11)/PWM0_P_0(ALT16)/TRGM_P_00(ALT17)/ETH0_MDC(ALT18)/QEO1_A(ALT21)/SEI1_TX(ALT22), T14 GPIO_F_12(ALT0)/UART11_CTS(ALT3)/I2C1_SDA(ALT4)/SPI4_MISO(ALT5)/TSW0_P3_RXD_3(ALT10)/ESC0_P1_RXD_3(ALT11)/PWM1_P_4(ALT16)/TRGM_P_12(ALT17)/ETH0_RXD_3(ALT18)/QEI3_H0(ALT20)/SEI3_CK(ALT22), T15 GPIO_F_15(ALT0)/GPTMR4_COMP_3(ALT1)/UART11_TXD(ALT2)/SPI4_DAT3(ALT5)/MCAN3_TXD(ALT7)/TSW0_P1_RXER(ALT10)/ESC0_P2_RXER(ALT11)/PWM1_P_7(ALT16)/TRGM_P_15(ALT17)/ETH0_TXER(ALT18)/QEI3_A(ALT20)/QEO3_A(ALT21)/SEI3_TX(ALT22), U9 GPIO_F_16(ALT0)/GPTMR7_COMP_0(ALT1)/UART12_TXD(ALT2)/MCAN4_TXD(ALT7)/PWM2_P_0(ALT16)/TRGM_P_16(ALT17)/SDM0_DAT_0(ALT23), U10 GPIO_F_17(ALT0)/GPTMR7_CAPT_0(ALT1)/UART12_RXD(ALT2)/MCAN4_RXD(ALT7)/PWM2_P_1(ALT16)/TRGM_P_17(ALT17)/SDM0_CLK_0(ALT23), U11 GPIO_F_06(ALT0)/GPTMR4_CAPT_0(ALT1)/UART9_RXD(ALT2)/I2C3_SDA(ALT4)/SPI5_MISO(ALT5)/TSW0_P3_TXD_3(ALT10)/ESC0_P1_TXD_3(ALT11)/PWM0_P_6(ALT16)/TRGM_P_06(ALT17)/ETH0_TXD_3(ALT18)/QEI0_B(ALT20)/QEO0_B(ALT21)/SEI0_RX(ALT22), U12 GPIO_F_02(ALT0)/GPTMR5_COMP_1(ALT1)/UART8_DE(ALT2)/UART8_RTS(ALT3)/I2C2_SCL(ALT4)/MCAN0_STBY(ALT7)/TSW0_P3_TXCK(ALT10)/ESC0_P1_TXCK(ALT11)/PWM0_P_2(ALT16)/TRGM_P_02(ALT17)/ETH0_TXCK(ALT18)/QEI0_H1(ALT20)/QEO1_Z(ALT21)/SEI1_DE(ALT22), U13 GPIO_F_10(ALT0)/GPTMR4_COMP_2(ALT1)/UART10_DE(ALT2)/UART10_RTS(ALT3)/SPI4_SCLK(ALT5)/MCAN2_STBY(ALT7)/TSW0_P3_RXD_1(ALT10)/ESC0_P1_RXD_1(ALT11)/PWM1_P_2(ALT16)/TRGM_P_10(ALT17)/ETH0_RXD_1(ALT18)/QEI3_F(ALT20)/QEO2_Z(ALT21)/SEI2_DE(ALT22), U14 GPIO_F_13(ALT0)/GPTMR5_COMP_3(ALT1)/UART11_DE(ALT2)/UART11_RTS(ALT3)/I2C1_SCL(ALT4)/SPI4_MOSI(ALT5)/MCAN3_STBY(ALT7)/TSW0_P3_RXCK(ALT10)/ESC0_P1_RXCK(ALT11)/PWM1_P_5(ALT16)/TRGM_P_13(ALT17)/ETH0_RXCK(ALT18)/QEI3_Z(ALT20)/QEO3_Z(ALT21)/SEI3_DE(ALT22), U15 GPIO_F_14(ALT0)/UART11_RXD(ALT2)/SPI4_DAT2(ALT5)/MCAN3_RXD(ALT7)/TSW0_P3_RXER(ALT10)/ESC0_P1_RXER(ALT11)/PWM1_P_6(ALT16)/TRGM_P_14(ALT17)/ETH0_RXER(ALT18)/QEI3_B(ALT20)/QEO3_B(ALT21)/SEI3_RX(ALT22)
part I pins: N5 GPIO_Y_07(ALT0)/GPTMR0_COMP_0(ALT1)/UART1_TXD(ALT2)/I2C1_SCL(ALT4)/SPI1_MOSI(ALT5)/PDM0_D_0(ALT9), N6 GPIO_Z_05(ALT0)/GPTMR3_COMP_2(ALT1)/UART5_DE(ALT2)/UART5_RTS(ALT3)/SPI2_CS_0(ALT5)/MCAN5_TXD(ALT7), N7 GPIO_Z_03(ALT0)/GPTMR3_CAPT_1(ALT1)/UART4_CTS(ALT3)/I2C0_SDA(ALT4)/MCAN5_STBY(ALT7), N8 GPIO_Z_01(ALT0)/GPTMR3_CAPT_0(ALT1)/UART4_RXD(ALT2)/MCAN4_RXD(ALT7), P5 GPIO_Y_06(ALT0)/GPTMR0_CAPT_0(ALT1)/UART1_RXD(ALT2)/I2C1_SDA(ALT4)/SPI1_MISO(ALT5)/PDM0_CLK(ALT9), P6 GPIO_Z_04(ALT0)/UART5_CTS(ALT3)/SPI2_SCLK(ALT5)/MCAN5_RXD(ALT7), P7 GPIO_Z_02(ALT0)/GPTMR3_COMP_1(ALT1)/UART4_DE(ALT2)/UART4_RTS(ALT3)/I2C0_SCL(ALT4)/MCAN4_STBY(ALT7), P8 GPIO_Z_00(ALT0)/GPTMR3_COMP_0(ALT1)/UART4_TXD(ALT2)/MCAN4_TXD(ALT7), R5 GPIO_Y_05(ALT0)/GPTMR1_COMP_2(ALT1)/UART1_DE(ALT2)/UART1_RTS(ALT3)/SPI1_CS_0(ALT5)/MCAN1_TXD(ALT7)/PDM0_D_1(ALT9), R6 GPIO_Y_04(ALT0)/UART1_CTS(ALT3)/SPI1_SCLK(ALT5)/MCAN1_RXD(ALT7)/PDM0_D_2(ALT9), T5 GPIO_Y_03(ALT0)/GPTMR1_CAPT_1(ALT1)/UART0_CTS(ALT3)/I2C0_SDA(ALT4)/MCAN1_STBY(ALT7)/PDM0_D_3(ALT9), T6 GPIO_Y_01(ALT0)/GPTMR1_CAPT_0(ALT1)/UART0_RXD(ALT2)/MCAN0_RXD(ALT7), U5 GPIO_Y_02(ALT0)/GPTMR1_COMP_1(ALT1)/UART0_DE(ALT2)/UART0_RTS(ALT3)/I2C0_SCL(ALT4)/MCAN0_STBY(ALT7)/PDM0_CLK(ALT9), U6 GPIO_Y_00(ALT0)/GPTMR1_COMP_0(ALT1)/UART0_TXD(ALT2)/MCAN0_TXD(ALT7)

## HPM5321IEG1
designator U??
Symbol: HPM5321IEG1
footprint QFN-48_L6.0-W6.0-P0.40-TL-EP4.2
pins: 1 PA04, 2 PA08, 3 PA09, 4 PA10, 5 VDD_SOC, 6 VIO_B00, 7 PA03, 8 PA02, 9 VDD_SOC, 10 VDD_OTPCAP, 11 PA01, 12 PA00, 13 RESETN, 14 WAKEUP, 15 DCDC_LP, 16 VPMC, 17 VDD_PMCCAP, 18 PY01, 19 PY00, 20 PB15, 21 PB14, 22 PB13, 23 PB12, 24 PB11, 25 PB10, 26 PB09, 27 PB08, 28 VDD_SOC, 29 VIO_B01, 30 VREFL, 31 VREFH, 32 VANA, 33 VDD_SOC, 34 VIO_B00, 35 XTALI, 36 XTALO, 37 PA31, 38 PA30, 39 PA29, 40 PA28, 41 PA27, 42 PA26, 43 PA25/USB_DM, 44 PA24/USB_DP, 45 VDD_SOC, 46 PA07, 47 PA06, 48 PA05, 49 VSS

## LGT8F328P-QFP32L
designator U?  (value not drawn)
Add into BOM: yes; Name: LGT8F328P-QFP32L; Symbol: LGT8F328P-QFP32L; Device: LGT8F328P-QFP32L; LCSC Part Name: LGT8F328P-QFP32L; Supplier Part: C9900027785; Manufacturer Part: LGT8F328P-QFP32L; Supplier Footprint: TQFP-32L; JLCPCB Part Class: 扩展库; Datasheet: 2022-08-22/4251777S/ca0859cfb35a445fb4db65583ba11f77/LGT8FX8P_Databook_v1-0-5.pdf; Supplier: LCSC; Convert to PCB: yes
footprint LQFP-32_L7.0-W7.0-P0.80-LS9.0-BL
pins: 1 OC2B/INT1/PD3, 2 XCK/T0/DAO/PD4, 3 OC1B/OC0A/PE4, 4 VCC, 5 GND, 6 AC1O/OC1A/PE5, 7 XTALO/PB6, 8 XTALI/PB7, 9 OC0B/T1/RXD/PD5, 10 OC0A/AC0P/TXD/PD6, 11 ACXN/PD7, 12 CLKO/ICP1/PB0, 13 OC1A/PB1, 14 SPSS/OC1B/PB2, 15 OC2A/MOSI/PB3, 16 MISO/PB4, 17 PB5/SCK/AC1P, 18 PE0/SWC/APN4, 19 PE1/ADC6/ACXP, 20 PE6/ADC10/AVREF, 21 PE2/SWD, 22 PE3/ADC7/AC1N, 23 PC0/ADC0/APP0, 24 PC1/ADC1/APP1, 25 PC2/ADC2/APN0, 26 PC3/ADC3/APN1, 27 PC4/ADC4/SDA, 28 PC5/ADC5/SCL, 29 PC6/RSTN, 30 PD0/RXD, 31 PD1/TXD/OC3A, 32 PD2/INT0/OC3B

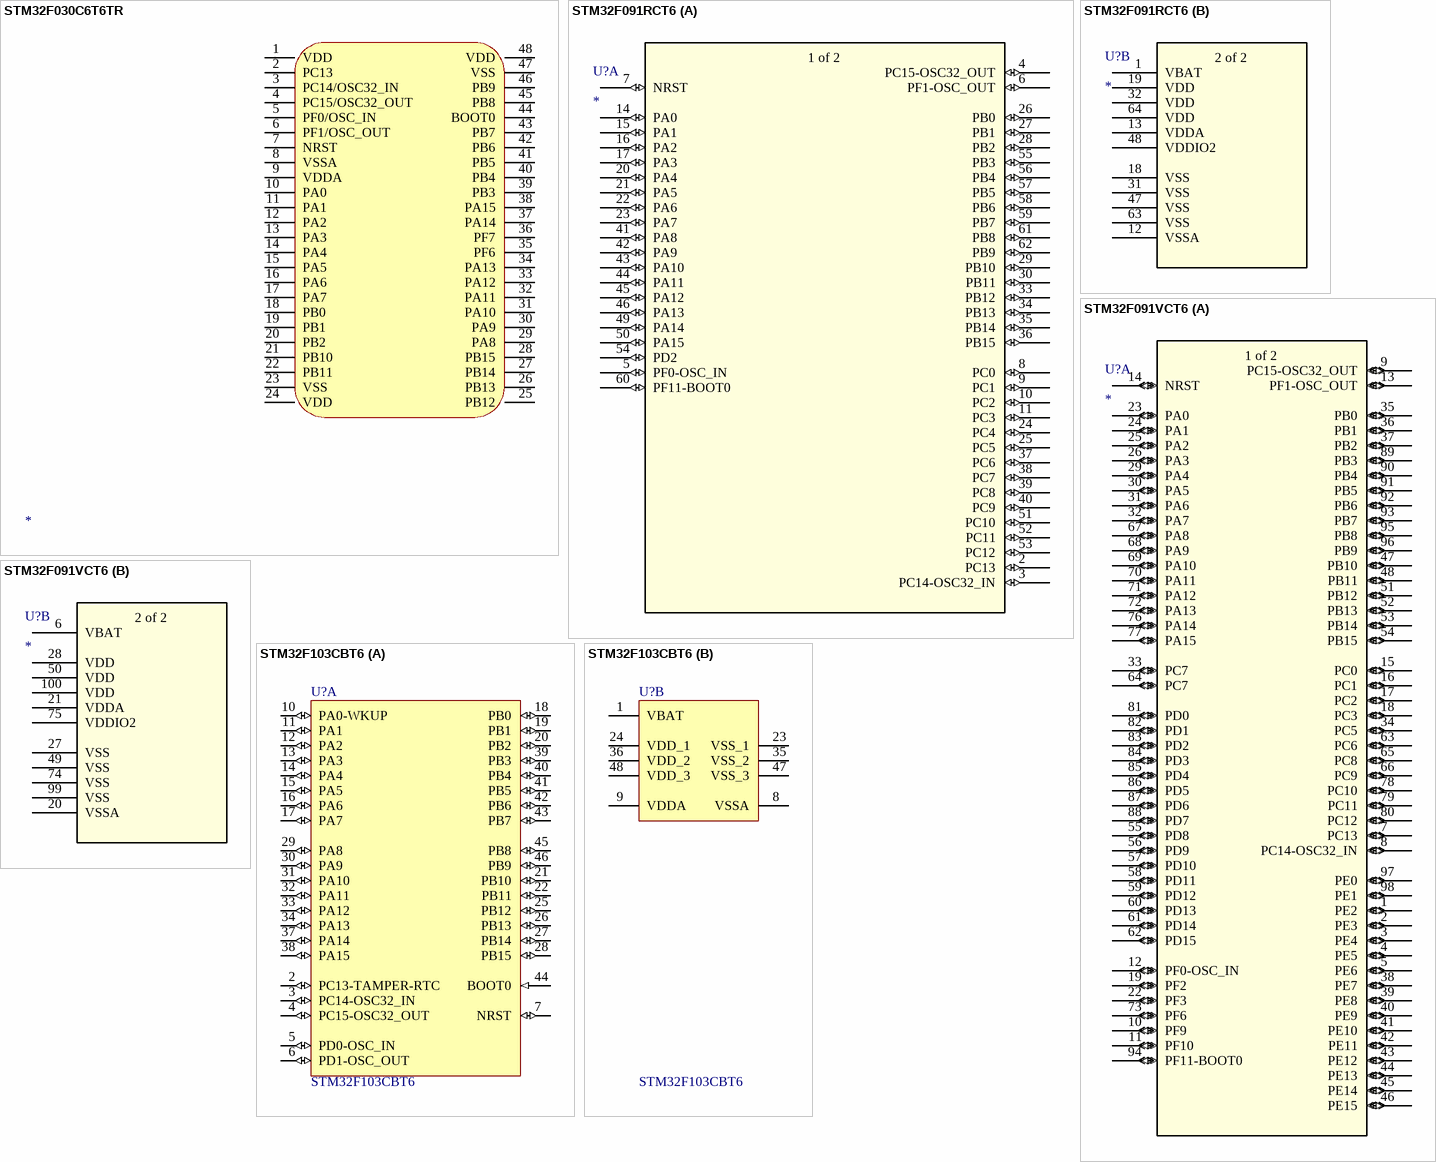
[diagram p3: symbols STM32F030C6T6TR to STM32F103CBT6]

## STM32F030C6T6TR
designator U??
Symbol: STM32F030C6T6TR
footprint LQFP_48
pins: 1 VDD, 2 PC13, 3 PC14/OSC32_IN, 4 PC15/OSC32_OUT, 5 PF0/OSC_IN, 6 PF1/OSC_OUT, 7 NRST, 8 VSSA, 9 VDDA, 10 PA0, 11 PA1, 12 PA2, 13 PA3, 14 PA4, 15 PA5, 16 PA6, 17 PA7, 18 PB0, 19 PB1, 20 PB2, 21 PB10, 22 PB11, 23 VSS, 24 VDD, 25 PB12, 26 PB13, 27 PB14, 28 PB15, 29 PA8, 30 PA9, 31 PA10, 32 PA11, 33 PA12, 34 PA13, 35 PF6, 36 PF7, 37 PA14, 38 PA15, 39 PB3, 40 PB4, 41 PB5, 42 PB6, 43 PB7, 44 BOOT0, 45 PB8, 46 PB9, 47 VSS, 48 VDD

## STM32F091RCT6
designator U?
No Description Available; Mfr_Name: STMicroelectronics; RefDes: RefDes; Type: Type
footprint LQFP64-10x10mm
part A pins: 2 PC13 (io), 3 PC14-OSC32_IN (io), 4 PC15-OSC32_OUT (io), 5 PF0-OSC_IN (io), 6 PF1-OSC_OUT (io), 7 NRST (io), 8 PC0 (io), 9 PC1 (io), 10 PC2 (io), 11 PC3 (io), 14 PA0 (io), 15 PA1 (io), 16 PA2 (io), 17 PA3 (io), 20 PA4 (io), 21 PA5 (io), 22 PA6 (io), 23 PA7 (io), 24 PC4 (io), 25 PC5 (io), 26 PB0 (io), 27 PB1 (io), 28 PB2 (io), 29 PB10 (io), 30 PB11 (io), 33 PB12 (io), 34 PB13 (io), 35 PB14 (io), 36 PB15 (io), 37 PC6 (io), 38 PC7 (io), 39 PC8 (io), 40 PC9 (io), 41 PA8 (io), 42 PA9 (io), 43 PA10 (io), 44 PA11 (io), 45 PA12 (io), 46 PA13 (io), 49 PA14 (io), 50 PA15 (io), 51 PC10 (io), 52 PC11 (io), 53 PC12 (io), 54 PD2 (io), 55 PB3 (io), 56 PB4 (io), 57 PB5 (io), 58 PB6 (io), 59 PB7 (io), 60 PF11-BOOT0 (io), 61 PB8 (io), 62 PB9 (io)
part B pins: 1 VBAT (power), 12 VSSA (power), 13 VDDA (power), 18 VSS (power), 19 VDD (power), 31 VSS (power), 32 VDD (power), 47 VSS (power), 48 VDDIO2 (power), 63 VSS (power), 64 VDD (power)
part A text: 1 of 2
part B text: 2 of 2